# Altium schematic symbol library dungvh03-CERN_AnalogInterface.SchLib: 1053 symbols (part 4 of 12)
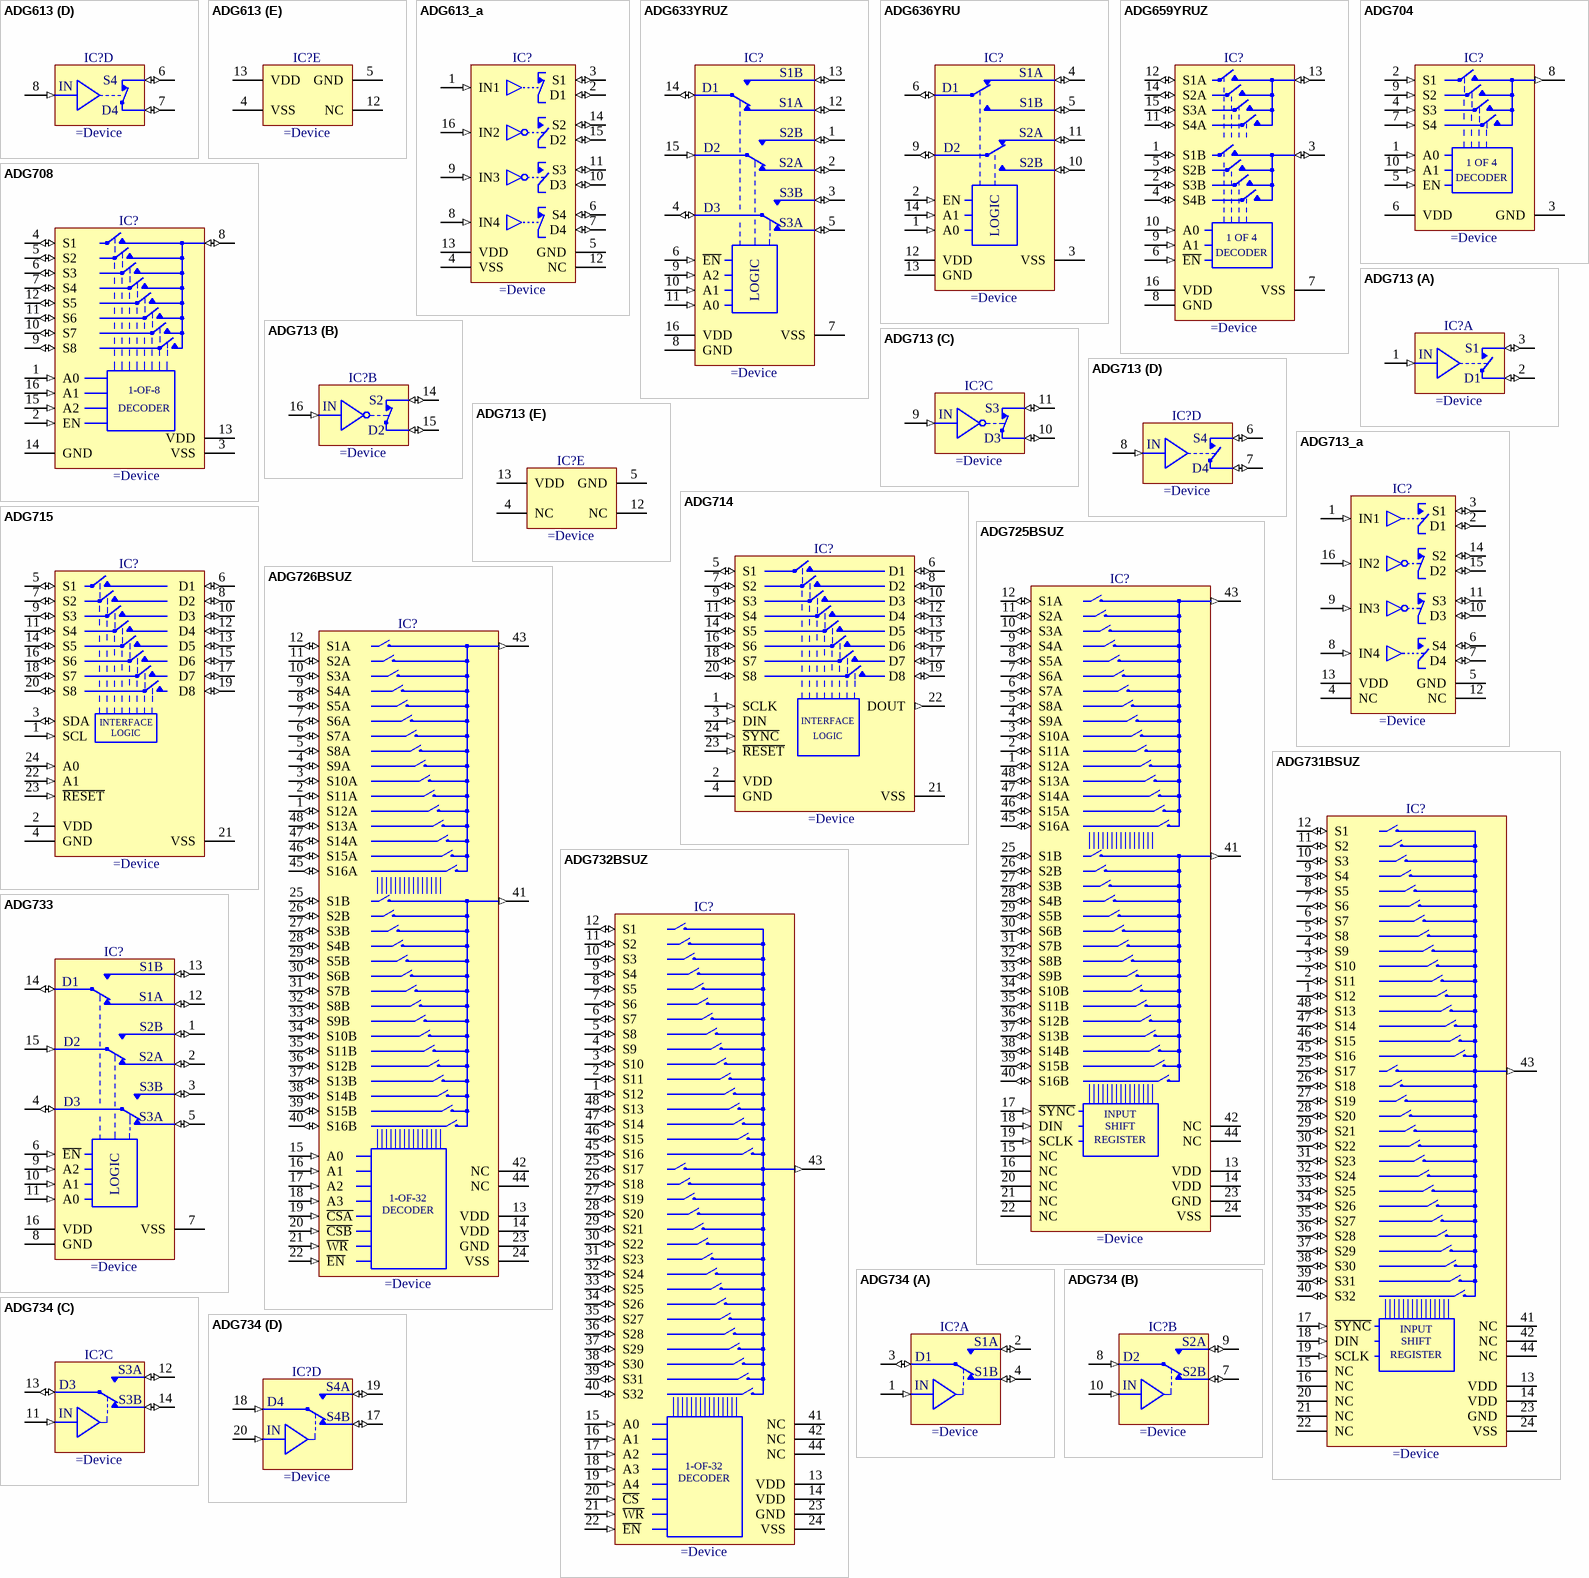
[diagram p70: symbols ADG613 to ADG734]

## ADG708
designator IC?
CMOS, 1.8V to 5.5V/±2.5V, 3 Ohm, 8-Channel Analog Multiplexer
pins: 1 A0 (in), 2 EN (in), 3 VSS (power), 4 S1 (io), 5 S2 (io), 6 S3 (io), 7 S4 (io), 8 D (io), 9 S8 (io), 10 S7 (io), 11 S6 (io), 12 S5 (io), 13 VDD (power), 14 GND (power), 15 A2 (in), 16 A1 (in)
text: 1-OF-8; DECODER

## ADG713
designator IC?
Quad SPST Switches
part A pins: 1 IN (in), 2 D (io), 3 S (io)
part B pins: 14 S (io), 15 D (io), 16 IN (in)
part C pins: 9 IN (in), 10 D (io), 11 S (io)
part D pins: 6 S (io), 7 D (io), 8 IN (in)
part E pins: 4 NC, 5 GND (power), 12 NC, 13 VDD (power)
part A text: S1; D1
part B text: S2; D2
part C text: S3; D3
part D text: S4; D4

## ADG713_a
designator IC?
Quad SPST Switches
pins: 1 IN1 (in), 2 D1 (io), 3 S1 (io), 4 NC, 5 GND (power), 6 S4 (io), 7 D4 (io), 8 IN4 (in), 9 IN3 (in), 10 D3 (io), 11 S3 (io), 12 NC, 13 VDD (power), 14 S2 (io), 15 D2 (io), 16 IN2 (in)

## ADG714
designator IC?
CMOS, Low Voltage SPI Serially Controlled, Octal SPST Switches
pins: 1 SCLK (in), 2 VDD (power), 3 DIN (in), 4 GND (power), 5 S1 (io), 6 D1 (io), 7 S2 (io), 8 D2 (io), 9 S3 (io), 10 D3 (io), 11 S4 (io), 12 D4 (io), 13 D5 (io), 14 S5 (io), 15 D6 (io), 16 S6 (io), 17 D7 (io), 18 S7 (io), 19 D8 (io), 20 S8 (io), 21 VSS (power), 22 DOUT (out), 23 ~{RESET} (in), 24 ~{SYNC} (in)
text: INTERFACE; LOGIC

## ADG715
designator IC?
CMOS, Low Voltage I2C Serially Controlled, Octal SPST Switches
pins: 1 SCL (in), 2 VDD (power), 3 SDA (io), 4 GND (power), 5 S1 (io), 6 D1 (io), 7 S2 (io), 8 D2 (io), 9 S3 (io), 10 D3 (io), 11 S4 (io), 12 D4 (io), 13 D5 (io), 14 S5 (io), 15 D6 (io), 16 S6 (io), 17 D7 (io), 18 S7 (io), 19 D8 (io), 20 S8 (io), 21 VSS (power), 22 A1 (in), 23 ~{RESET} (in), 24 A0 (in)
text: INTERFACE; LOGIC

## ADG725BSUZ
designator IC?
Dual 16-Channel, Serially Controlled 4 Ohms +1.8V to +5.5V,  ±2.5V Analog Multiplexer
pins: 1 S12A (io), 2 S11A (io), 3 S10A (io), 4 S9A (io), 5 S8A (io), 6 S7A (io), 7 S6A (io), 8 S5A (io), 9 S4A (io), 10 S3A (io), 11 S2A (io), 12 S1A (io), 13 VDD (power), 14 VDD (power), 15 NC, 16 NC, 17 ~{SYNC} (in), 18 DIN (in), 19 SCLK (in), 20 NC, 21 NC, 22 NC, 23 GND (power), 24 VSS (power), 25 S1B (io), 26 S2B (io), 27 S3B (io), 28 S4B (io), 29 S5B (io), 30 S6B (io), 31 S7B (io), 32 S8B (io), 33 S9B (io), 34 S10B (io), 35 S11B (io), 36 S12B (io), 37 S13B (io), 38 S14B (io), 39 S15B (io), 40 S16B (io), 41 DB (out), 42 NC, 43 DA (out), 44 NC, 45 S16A (io), 46 S15A (io), 47 S14A (io), 48 S13A (io)
text: INPUT; SHIFT; REGISTER

## ADG726BSUZ
designator IC?
Dual 16-Channel, 4 Ohms +1.8V to +5.5V,  ±2.5V Analog Multiplexer
pins: 1 S12A (io), 2 S11A (io), 3 S10A (io), 4 S9A (io), 5 S8A (io), 6 S7A (io), 7 S6A (io), 8 S5A (io), 9 S4A (io), 10 S3A (io), 11 S2A (io), 12 S1A (io), 13 VDD (power), 14 VDD (power), 15 A0 (in), 16 A1 (in), 17 A2 (in), 18 A3 (in), 19 ~{CSA} (in), 20 ~{CSB} (in), 21 ~{WR} (in), 22 ~{EN} (in), 23 GND (power), 24 VSS (power), 25 S1B (io), 26 S2B (io), 27 S3B (io), 28 S4B (io), 29 S5B (io), 30 S6B (io), 31 S7B (io), 32 S8B (io), 33 S9B (io), 34 S10B (io), 35 S11B (io), 36 S12B (io), 37 S13B (io), 38 S14B (io), 39 S15B (io), 40 S16B (io), 41 DB (out), 42 NC, 43 DA (out), 44 NC, 45 S16A (io), 46 S15A (io), 47 S14A (io), 48 S13A (io)
text: 1-OF-32; DECODER

## ADG731BSUZ
designator IC?
32-Channel, Serially Controlled 4 Ohms +1.8V to +5.5V,  ±2.5V Analog Multiplexer
pins: 1 S12 (io), 2 S11 (io), 3 S10 (io), 4 S9 (io), 5 S8 (io), 6 S7 (io), 7 S6 (io), 8 S5 (io), 9 S4 (io), 10 S3 (io), 11 S2 (io), 12 S1 (io), 13 VDD (power), 14 VDD (power), 15 NC, 16 NC, 17 ~{SYNC} (in), 18 DIN (in), 19 SCLK (in), 20 NC, 21 NC, 22 NC, 23 GND (power), 24 VSS (power), 25 S17 (io), 26 S18 (io), 27 S19 (io), 28 S20 (io), 29 S21 (io), 30 S22 (io), 31 S23 (io), 32 S24 (io), 33 S25 (io), 34 S26 (io), 35 S27 (io), 36 S28 (io), 37 S29 (io), 38 S30 (io), 39 S31 (io), 40 S32 (io), 41 NC, 42 NC, 43 D (out), 44 NC, 45 S16 (io), 46 S15 (io), 47 S14 (io), 48 S13 (io)
text: INPUT; SHIFT; REGISTER

## ADG732BSUZ
designator IC?
32-Channel, 4 Ohms +1.8V to +5.5V,  ±2.5V Analog Multiplexer
pins: 1 S12 (io), 2 S11 (io), 3 S10 (io), 4 S9 (io), 5 S8 (io), 6 S7 (io), 7 S6 (io), 8 S5 (io), 9 S4 (io), 10 S3 (io), 11 S2 (io), 12 S1 (io), 13 VDD (power), 14 VDD (power), 15 A0 (in), 16 A1 (in), 17 A2 (in), 18 A3 (in), 19 A4 (in), 20 ~{CS} (in), 21 ~{WR} (in), 22 ~{EN} (in), 23 GND (power), 24 VSS (power), 25 S17 (io), 26 S18 (io), 27 S19 (io), 28 S20 (io), 29 S21 (io), 30 S22 (io), 31 S23 (io), 32 S24 (io), 33 S25 (io), 34 S26 (io), 35 S27 (io), 36 S28 (io), 37 S29 (io), 38 S30 (io), 39 S31 (io), 40 S32 (io), 41 NC, 42 NC, 43 D (out), 44 NC, 45 S16 (io), 46 S15 (io), 47 S14 (io), 48 S13 (io)
text: 1-OF-32; DECODER

## ADG733
designator IC?
CMOS, 2.5 Ohm Low Voltage, Triple SPDT Switch
pins: 1 S2B (io), 2 S2A (io), 3 S3B (io), 4 D3 (io), 5 S3A (io), 6 ~{EN} (in), 7 VSS (power), 8 GND (power), 9 A2 (in), 10 A1 (in), 11 A0 (in), 12 S1A (io), 13 S1B (io), 14 D1 (io), 15 D2 (in), 16 VDD (power)
text: LOGIC

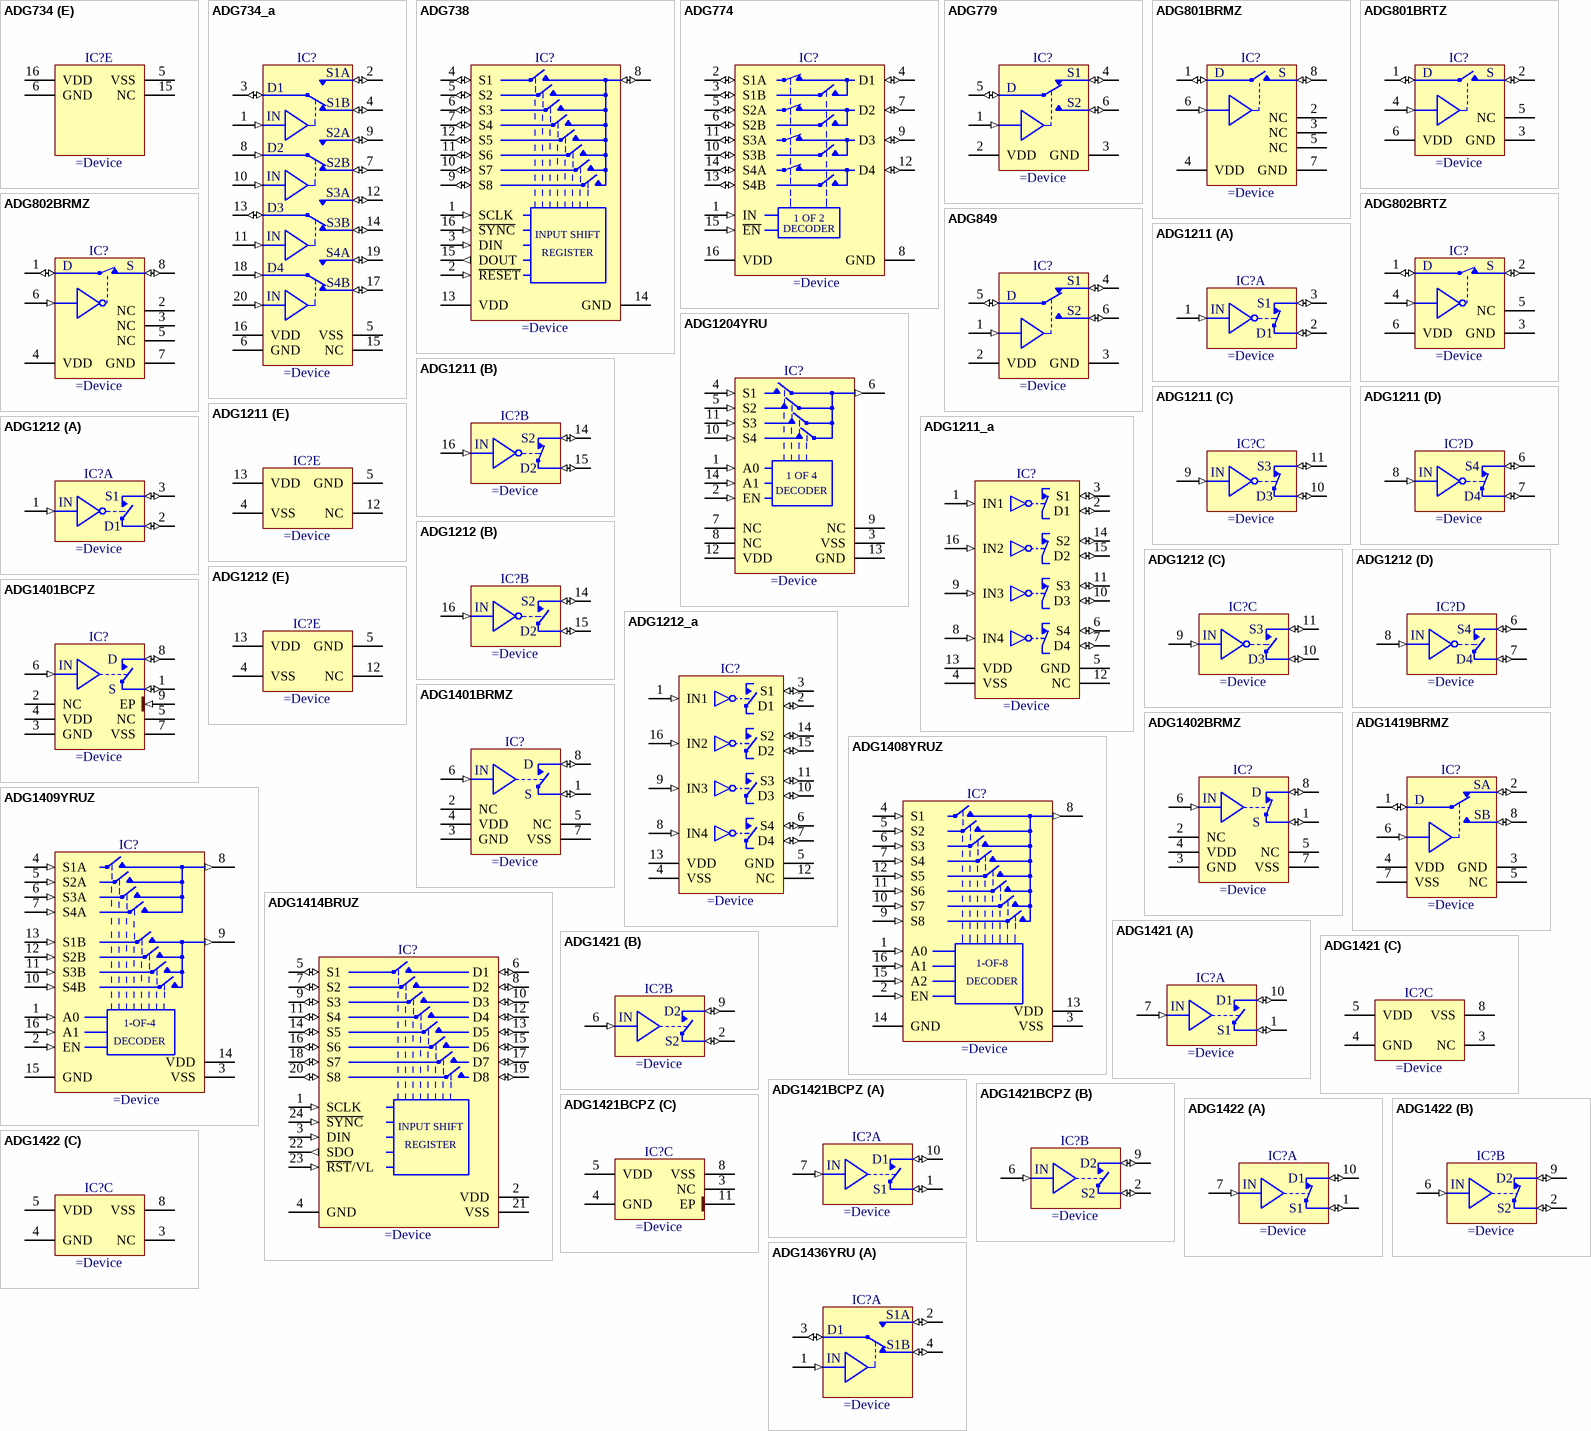
[diagram p16: symbols ADG734 to ADG1436YRU]

## ADG734
designator IC?
CMOS, 2.5 Ohm Low Voltage, Quad SPDT Switch
part A pins: 1 IN (in), 2 S (io), 3 D (io), 4 S (io)
part B pins: 7 S (io), 8 D (in), 9 S (io), 10 IN (in)
part C pins: 11 IN (in), 12 S (io), 13 D (io), 14 S (io)
part D pins: 17 S (io), 18 D (in), 19 S (io), 20 IN (in)
part E pins: 5 VSS (power), 6 GND (power), 15 NC, 16 VDD (power)
part A text: S1A; D1; S1B
part B text: S2A; D2; S2B
part C text: S3A; D3; S3B
part D text: S4A; D4; S4B

## ADG734_a
designator IC?
CMOS, 2.5 Ohm Low Voltage, Quad SPDT Switch
pins: 1 IN (in), 2 S (io), 3 D (io), 4 S (io), 5 VSS (power), 6 GND (power), 7 S (io), 8 D (in), 9 S (io), 10 IN (in), 11 IN (in), 12 S (io), 13 D (io), 14 S (io), 15 NC, 16 VDD (power), 17 S (io), 18 D (in), 19 S (io), 20 IN (in)
text: S1A; D1; S1B; S2A; D2; S2B; S3A; D3; S3B; S4A; D4; S4B

## ADG738
designator IC?
CMOS, Low Voltage, 3-Wire Serially-Controlled, 8-Channel Matrix Switches
pins: 1 SCLK (in), 2 ~{RESET} (in), 3 DIN (in), 4 S1 (io), 5 S2 (io), 6 S3 (io), 7 S4 (io), 8 D (io), 9 S8 (io), 10 S7 (io), 11 S6 (io), 12 S5 (io), 13 VDD (power), 14 GND (power), 15 DOUT (out), 16 ~{SYNC} (in)
text: INPUT SHIFT; REGISTER

## ADG774
designator IC?
CMOS 3 V/5 V, Wide Bandwidth Quad 2:1 Multiplexer/Demultiplexers
pins: 1 IN (in), 2 S1A (io), 3 S1B (io), 4 D1 (io), 5 S2A (io), 6 S2B (io), 7 D2 (io), 8 GND (power), 9 D3 (io), 10 S3B (io), 11 S3A (io), 12 D4 (io), 13 S4B (io), 14 S4A (io), 15 ~{EN} (in), 16 VDD (power)
text: 1 OF 2; DECODER

## ADG779
designator IC?
CMOS 1.8 V to 5.5 V, 2.5 Ohm SPDT Switch
pins: 1 IN (in), 2 VDD (power), 3 GND (power), 4 S1 (io), 5 D (io), 6 S2 (io)

## ADG801BRMZ
designator IC?
CMOS 1.8 V to 5.5 V, <0.4 Ω SPST Switches (Normally Open)
pins: 1 D (io), 2 NC, 3 NC, 4 VDD (power), 5 NC, 6 IN (in), 7 GND (power), 8 S (io)

## ADG801BRTZ
designator IC?
CMOS 1.8 V to 5.5 V, <0.4 Ω SPST Switches (Normally Open)
pins: 1 D (io), 2 S (io), 3 GND (power), 4 IN (in), 5 NC, 6 VDD (power)

## ADG802BRMZ
designator IC?
CMOS 1.8 V to 5.5 V, <0.4 Ω SPST Switches (Normally Closed)
pins: 1 D (io), 2 NC, 3 NC, 4 VDD (power), 5 NC, 6 IN (in), 7 GND (power), 8 S (io)

## ADG802BRTZ
designator IC?
CMOS 1.8 V to 5.5 V, <0.4 Ω SPST Switches (Normally Closed)
pins: 1 D (io), 2 S (io), 3 GND (power), 4 IN (in), 5 NC, 6 VDD (power)

## ADG849
designator IC?
CMOS 3V/5V, 0.5 Ohm SPDT/2:1 Mux Switch
pins: 1 IN (in), 2 VDD (power), 3 GND (power), 4 S1 (io), 5 D (io), 6 S2 (io)

## ADG1204YRU
designator IC?
Low Capacitance, Low Charge Injection, ±15 V/+12 V, 4:1 iCMOS Multiplexer
pins: 1 A0 (in), 2 EN (in), 3 VSS (power), 4 S1 (in), 5 S2 (in), 6 D (out), 7 NC, 8 NC, 9 NC, 10 S4 (in), 11 S3 (in), 12 VDD (power), 13 GND (power), 14 A1 (in)
text: 1 OF 4; DECODER

## ADG1211
designator IC?
Low Capacitance, Low Charge Injection, ±15V/+12V iCMOS iCMOS Quad SPST Switches (Normally Closed)
part A pins: 1 IN (in), 2 D (io), 3 S (io)
part B pins: 14 S (io), 15 D (io), 16 IN (in)
part C pins: 9 IN (in), 10 D (io), 11 S (io)
part D pins: 6 S (io), 7 D (io), 8 IN (in)
part E pins: 4 VSS (power), 5 GND (power), 12 NC, 13 VDD (power)
part A text: S1; D1
part B text: S2; D2
part C text: S3; D3
part D text: S4; D4

## ADG1211_a
designator IC?
Low Capacitance, Low Charge Injection, ±15V/+12V iCMOS iCMOS Quad SPST Switches (Normally Closed)
pins: 1 IN1 (in), 2 D1 (io), 3 S1 (io), 4 VSS (power), 5 GND (power), 6 S4 (io), 7 D4 (io), 8 IN4 (in), 9 IN3 (in), 10 D3 (io), 11 S3 (io), 12 NC, 13 VDD (power), 14 S2 (io), 15 D2 (io), 16 IN2 (in)

## ADG1212
designator IC?
Low Capacitance, Low Charge Injection, ±15V/+12V iCMOS iCMOS Quad SPST Switches (Normally Open)
part A pins: 1 IN (in), 2 D (io), 3 S (io)
part B pins: 14 S (io), 15 D (io), 16 IN (in)
part C pins: 9 IN (in), 10 D (io), 11 S (io)
part D pins: 6 S (io), 7 D (io), 8 IN (in)
part E pins: 4 VSS (power), 5 GND (power), 12 NC, 13 VDD (power)
part A text: S1; D1
part B text: S2; D2
part C text: S3; D3
part D text: S4; D4

## ADG1212_a
designator IC?
Low Capacitance, Low Charge Injection, ±15V/+12V iCMOS iCMOS Quad SPST Switches (Normally Open)
pins: 1 IN1 (in), 2 D1 (io), 3 S1 (io), 4 VSS (power), 5 GND (power), 6 S4 (io), 7 D4 (io), 8 IN4 (in), 9 IN3 (in), 10 D3 (io), 11 S3 (io), 12 NC, 13 VDD (power), 14 S2 (io), 15 D2 (io), 16 IN2 (in)

## ADG1401BCPZ
designator IC?
1 Ohm ON Resistance, ±15 V/+12 V/±5 V, iCMOS SPST Switches (Normaly Open)
pins: 1 S (io), 2 NC, 3 GND (power), 4 VDD (power), 5 NC, 6 IN (in), 7 VSS (power), 8 D (io), 9 EP (in)

## ADG1401BRMZ
designator IC?
1 Ohm ON Resistance, ±15 V/+12 V/±5 V, iCMOS SPST Switches (Normaly Open)
pins: 1 S (io), 2 NC, 3 GND (power), 4 VDD (power), 5 NC, 6 IN (in), 7 VSS (power), 8 D (io)

## ADG1402BRMZ
designator IC?
1 Ohm ON Resistance, ±15 V/+12 V/±5 V, iCMOS SPST Switches (Normaly Close)
pins: 1 S (io), 2 NC, 3 GND (power), 4 VDD (power), 5 NC, 6 IN (in), 7 VSS (power), 8 D (io)

## ADG1408YRUZ
designator IC?
8-Channel, ±15 V/+12 V/±5 V iCMOS Multiplexers
pins: 1 A0 (in), 2 EN (in), 3 VSS (power), 4 S1 (in), 5 S2 (in), 6 S3 (in), 7 S4 (in), 8 D (out), 9 S8 (in), 10 S7 (in), 11 S6 (in), 12 S5 (in), 13 VDD (power), 14 GND (power), 15 A2 (in), 16 A1 (in)
text: 1-OF-8; DECODER

## ADG1409YRUZ
designator IC?
Dual 4-Channel ±15V/+12V/±5V iCMOS Multiplexer
pins: 1 A0 (in), 2 EN (in), 3 VSS (power), 4 S1A (in), 5 S2A (in), 6 S3A (in), 7 S4A (in), 8 DA (out), 9 DB (out), 10 S4B (in), 11 S3B (in), 12 S2B (in), 13 S1B (in), 14 VDD (power), 15 GND (power), 16 A1 (in)
text: 1-OF-4; DECODER

## ADG1414BRUZ
designator IC?
9.5 Ohm ON Resistance, ±15 V/+12 V/±5 V iCMOS,  Serially-Controlled Octal SPST Switches
pins: 1 SCLK (in), 2 VDD (power), 3 DIN (in), 4 GND (power), 5 S1 (io), 6 D1 (io), 7 S2 (io), 8 D2 (io), 9 S3 (io), 10 D3 (io), 11 S4 (io), 12 D4 (io), 13 D5 (io), 14 S5 (io), 15 D6 (io), 16 S6 (io), 17 D7 (io), 18 S7 (io), 19 D8 (io), 20 S8 (io), 21 VSS (power), 22 SDO (out), 23 ~{RST}/VL (in), 24 ~{SYNC} (in)
text: INPUT SHIFT; REGISTER

## ADG1419BRMZ
designator IC?
2.1 Ohm On Resistance, ±15 V/+12 V/±5 V  iCMOS SPDT Switch
pins: 1 D (io), 2 SA (io), 3 GND (power), 4 VDD (power), 5 NC, 6 IN (in), 7 VSS (power), 8 SB (io)

## ADG1421
designator IC?
2.1 Ohms On Resistance iCMOS Dual SPST Switches (Normally Open)
part A pins: 1 S1 (io), 7 IN (in), 10 D1 (io)
part B pins: 2 S2 (io), 6 IN (in), 9 D2 (io)
part C pins: 3 NC, 4 GND (power), 5 VDD (power), 8 VSS (power)

## ADG1421BCPZ
designator IC?
2.1 Ohms On Resistance iCMOS Dual SPST Switches (Normally Open)
part A pins: 1 S1 (io), 7 IN (in), 10 D1 (io)
part B pins: 2 S2 (io), 6 IN (in), 9 D2 (io)
part C pins: 3 NC, 4 GND (power), 5 VDD (power), 8 VSS (power), 11 EP (power) "It is recommended that the exposed paddle be soldered to VSS to improve heat dissipation and crosstalk."

## ADG1422
designator IC?
2.1 Ohms On Resistance iCMOS Dual SPST Switches (Normally Closed)
part A pins: 1 S1 (io), 7 IN (in), 10 D1 (io)
part B pins: 2 S2 (io), 6 IN (in), 9 D2 (io)
part C pins: 3 NC, 4 GND (power), 5 VDD (power), 8 VSS (power)

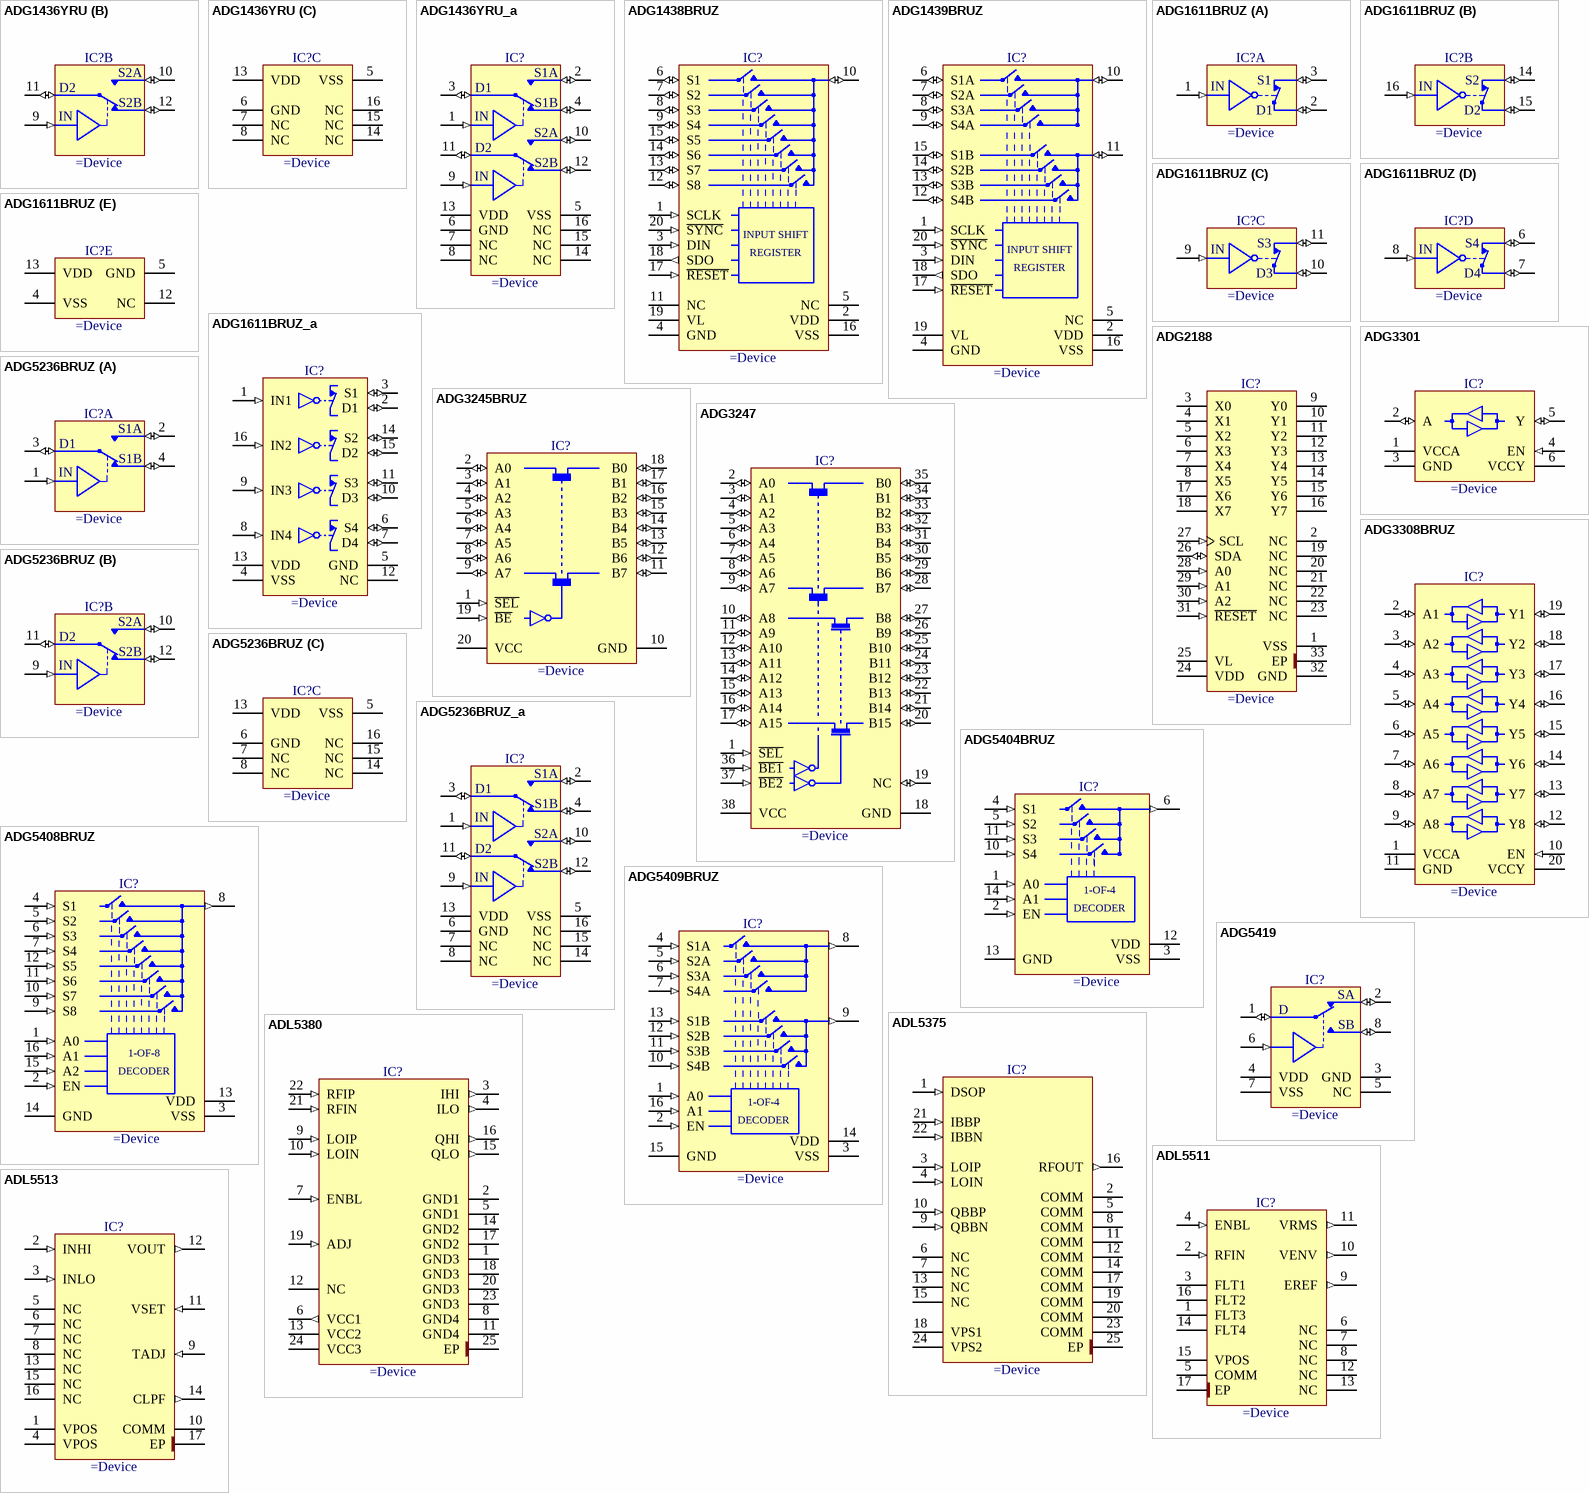
[diagram p17: symbols ADG1436YRU to ADL5513]

## ADG1436YRU
designator IC?
±15 V/12 V/±5 V, iCMOS, Dual SPDT Switch
part A pins: 1 IN (in), 2 S (io), 3 D (io), 4 S (io)
part B pins: 9 IN (in), 10 S (io), 11 D (io), 12 S (io)
part C pins: 5 VSS (power), 6 GND (power), 7 NC, 8 NC, 13 VDD (power), 14 NC, 15 NC, 16 NC
part A text: S1A; D1; S1B
part B text: S2A; D2; S2B

## ADG1436YRU_a
designator IC?
±15 V/12 V/±5 V, iCMOS, Dual SPDT Switch
pins: 1 IN (in), 2 D (io), 3 S (io), 4 S (io), 5 VSS (power), 6 GND (power), 7 NC, 8 NC, 9 IN (in), 10 S (io), 11 IN (io), 12 D (io), 13 VDD (power), 14 NC, 15 NC, 16 NC
text: S1A; D1; S1B; S2A; D2; S2B

## ADG1438BRUZ
designator IC?
Serially Controlled, ±15 V/+12 V/±5 V, 8-Channel iCMOS Multiplexer/Matrix Switches
pins: 1 SCLK (in), 2 VDD (power), 3 DIN (in), 4 GND (power), 5 NC, 6 S1 (io), 7 S2 (io), 8 S3 (io), 9 S4 (io), 10 D (io), 11 NC, 12 S8 (io), 13 S7 (io), 14 S6 (io), 15 S5 (io), 16 VSS (power), 17 ~{RESET} (in), 18 SDO (out), 19 VL (power), 20 ~{SYNC} (in)
text: INPUT SHIFT; REGISTER

## ADG1439BRUZ
designator IC?
Serially Controlled, ±15 V/+12 V/±5 V, 4-Channel iCMOS Multiplexer/Matrix Switches
pins: 1 SCLK (in), 2 VDD (power), 3 DIN (in), 4 GND (power), 5 NC, 6 S1A (io), 7 S2A (io), 8 S3A (io), 9 S4A (io), 10 D (io), 11 D (io), 12 S4B (io), 13 S3B (io), 14 S2B (io), 15 S1B (io), 16 VSS (power), 17 ~{RESET} (in), 18 SDO (out), 19 VL (power), 20 ~{SYNC} (in)
text: INPUT SHIFT; REGISTER

## ADG1611BRUZ
designator IC?
1 Ohm Typical On Resistance, +3.3 V, ±5 V, +12 V Quad SPST Switches (Normally Closed)
part A pins: 1 IN (in), 2 D (io), 3 S (io)
part B pins: 14 S (io), 15 D (io), 16 IN (in)
part C pins: 9 IN (in), 10 D (io), 11 S (io)
part D pins: 6 S (io), 7 D (io), 8 IN (in)
part E pins: 4 VSS (power), 5 GND (power), 12 NC, 13 VDD (power)
part A text: S1; D1
part B text: S2; D2
part C text: S3; D3
part D text: S4; D4

## ADG1611BRUZ_a
designator IC?
1 Ohm Typical On Resistance, +3.3 V, ±5 V, +12 V Quad SPST Switches (Normally Closed)
pins: 1 IN1 (in), 2 D1 (io), 3 S1 (io), 4 VSS (power), 5 GND (power), 6 S4 (io), 7 D4 (io), 8 IN4 (in), 9 IN3 (in), 10 D3 (io), 11 S3 (io), 12 NC, 13 VDD (power), 14 S2 (io), 15 D2 (io), 16 IN2 (in)

## ADG2188
designator IC?
I2C(R) CMOS 8 x 8 Unbuffered Analog Switch Array with Dual/Single Supplies
pins: 1 VSS (power) "Negative Power Supply in a Dual-Supply Application. For single-supply applications, this pin should be tied to GND.", 2 NC "No Connect.", 3 X0 "Can be inputs or outputs.", 4 X1 "Can be inputs or outputs.", 5 X2 "Can be inputs or outputs.", 6 X3 "Can be inputs or outputs.", 7 X4 "Can be inputs or outputs.", 8 X5 "Can be inputs or outputs.", 9 Y0 "Can be inputs or outputs.", 10 Y1 "Can be inputs or outputs.", 11 Y2 "Can be inputs or outputs.", 12 Y3 "Can be inputs or outputs.", 13 Y4 "Can be inputs or outputs.", 14 Y5 "Can be inputs or outputs.", 15 Y6 "Can be inputs or outputs.", 16 Y7 "Can be inputs or outputs.", 17 X6 "Can be inputs or outputs.", 18 X7 "Can be inputs or outputs.", 19 NC "No Connect.", 20 NC "No Connect.", 21 NC "No Connect.", 22 NC "No Connect.", 23 NC "No Connect.", 24 VDD (power) "Positive Power Supply Input.", 25 VL (power) "Logic Power Supply Input.", 26 SDA (io) "Digital I/O. Bidirectional open drain data line. External pull-up resistor required.", 27 SCL (in) "Digital Input, Serial Clock Line. Open drain input that is used in conjunction with SDA to clock data into the device. External pull-up resistor required.", 28 A0 (in) "Logic Input. Address pin that sets the least significant bit of the 7-bit slave address.", 29 A1 (in) "Logic Input. Address pin that sets the second least significant bit of the 7-bit slave address.", 30 A2 (in) "Logic Input. Address pin that sets the third least significant bit of the 7-bit slave address.", 31 ~{RESET} (in) "Active Low Logic Input. When this pin is low, all switches are open, and appropriate registers are cleared to 0.", 32 GND (power) "Ground. Reference point for all circuitry on the ADG2188.", 33 EP (power) "It is recommended that the exposed paddle be soldered to VSS to improve heat dissipation and crosstalk."

## ADG3245BRUZ
designator IC?
2.5 V/3.3 V, 8-Bit, 2-Port  Level Translating, Bus Switch
pins: 1 ~{SEL} (in), 2 A0 (io), 3 A1 (io), 4 A2 (io), 5 A3 (io), 6 A4 (io), 7 A5 (io), 8 A6 (io), 9 A7 (io), 10 GND (power), 11 B7 (io), 12 B6 (io), 13 B5 (io), 14 B4 (io), 15 B3 (io), 16 B2 (io), 17 B1 (io), 18 B0 (io), 19 ~{BE} (in), 20 VCC (power)

## ADG3247
designator IC?
2.5V/3.3V, 16-Bit, 2-Port Level Translating, Bus Switch
pins: 1 ~{SEL} (in), 2 A0 (io), 3 A1 (io), 4 A2 (io), 5 A3 (io), 6 A4 (io), 7 A5 (io), 8 A6 (io), 9 A7 (io), 10 A8 (io), 11 A9 (io), 12 A10 (io), 13 A11 (io), 14 A12 (io), 15 A13 (io), 16 A14 (io), 17 A15 (io), 18 GND (power), 19 NC (io), 20 B15 (io), 21 B14 (io), 22 B13 (io), 23 B12 (io), 24 B11 (io), 25 B10 (io), 26 B9 (io), 27 B8 (io), 28 B7 (io), 29 B6 (io), 30 B5 (io), 31 B4 (io), 32 B3 (io), 33 B2 (io), 34 B1 (io), 35 B0 (io), 36 ~{BE1} (in), 37 ~{BE2} (in), 38 VCC (power)

## ADG3301
designator IC?
Low Voltage, 1.15V to 5.5V, Single-Channel Bidirectional Logic Level Translator
pins: 1 VCCA (power), 2 A (io), 3 GND (power), 4 EN (in), 5 Y (io), 6 VCCY (power)

## ADG3308BRUZ
designator IC?
Low Voltage, 1.15V to 5.5V, 8-Channel Bidirectional Logic Level Translator
pins: 1 VCCA (power), 2 A1 (io), 3 A2 (io), 4 A3 (io), 5 A4 (io), 6 A5 (io), 7 A6 (io), 8 A7 (io), 9 A8 (io), 10 EN (in), 11 GND (power), 12 Y8 (io), 13 Y7 (io), 14 Y6 (io), 15 Y5 (io), 16 Y4 (io), 17 Y3 (io), 18 Y2 (io), 19 Y1 (io), 20 VCCY (power)

## ADG5236BRUZ
designator IC?
High Voltage Latch-Up Proof, Dual SPDT Switches
part A pins: 1 IN (in), 2 S (io), 3 D (io), 4 S (io)
part B pins: 9 IN (in), 10 S (io), 11 D (io), 12 S (io)
part C pins: 5 VSS (power), 6 GND (power), 7 NC, 8 NC, 13 VDD (power), 14 NC, 15 NC, 16 NC
part A text: S1A; D1; S1B
part B text: S2A; D2; S2B

## ADG5236BRUZ_a
designator IC?
High Voltage Latch-Up Proof, Dual SPDT Switches
pins: 1 IN (in), 2 D (io), 3 S (io), 4 S (io), 5 VSS (power), 6 GND (power), 7 NC, 8 NC, 9 IN (in), 10 S (io), 11 IN (io), 12 D (io), 13 VDD (power), 14 NC, 15 NC, 16 NC
text: S1A; D1; S1B; S2A; D2; S2B

## ADG5404BRUZ
designator IC?
High Voltage Latch-Up Proof, 4-Channel Multiplexer
pins: 1 A0 (in), 2 EN (in), 3 VSS (power), 4 S1 (in), 5 S2 (in), 6 D (out), 10 S4 (in), 11 S3 (in), 12 VDD (power), 13 GND (power), 14 A1 (in)
text: 1-OF-4; DECODER

## ADG5408BRUZ
designator IC?
High Voltage Latch-Up Proof, 8-Channel Multiplexer
pins: 1 A0 (in), 2 EN (in), 3 VSS (power), 4 S1 (in), 5 S2 (in), 6 S3 (in), 7 S4 (in), 8 D (out), 9 S8 (in), 10 S7 (in), 11 S6 (in), 12 S5 (in), 13 VDD (power), 14 GND (power), 15 A2 (in), 16 A1 (in)
text: 1-OF-8; DECODER

## ADG5409BRUZ
designator IC?
High Voltage Latch-Up Proof, Dual 4-Channel Multiplexer
pins: 1 A0 (in), 2 EN (in), 3 VSS (power), 4 S1A (in), 5 S2A (in), 6 S3A (in), 7 S4A (in), 8 DA (out), 9 DB (out), 10 S4B (in), 11 S3B (in), 12 S2B (in), 13 S1B (in), 14 VDD (power), 15 GND (power), 16 A1 (in)
text: 1-OF-4; DECODER

## ADG5419
designator IC?
High Voltage Latch-Up Proof, Single SPDT switch
pins: 1 D (io), 2 S1 (io), 3 GND (power), 4 VDD (power), 5 NC, 6 IN (in), 7 VSS (power), 8 S2 (io)
text: SA; SB

## ADL5375
designator IC?
400 MHz to 6 GHz Broadband Quadrature Modulator
pins: 1 DSOP (in), 2 COMM (power), 3 LOIP (in), 4 LOIN (in), 5 COMM (power), 6 NC, 7 NC, 8 COMM (power), 9 QBBN (in), 10 QBBP (in), 11 COMM (power), 12 COMM (power), 13 NC, 14 COMM (power), 15 NC, 16 RFOUT (out), 17 COMM (power), 18 VPS1 (power), 19 COMM (power), 20 COMM (power), 21 IBBP (in), 22 IBBN (in), 23 COMM (power), 24 VPS2 (power), 25 EP (power)

## ADL5380
designator IC?
400 MHz to 6 GHz Quadrature Demodulator
pins: 1 GND3 (power), 2 GND1 (power), 3 IHI (out), 4 ILO (out), 5 GND1 (power), 6 VCC1 (out), 7 ENBL (in), 8 GND4 (power), 9 LOIP (in), 10 LOIN (in), 11 GND4 (power), 12 NC, 13 VCC2 (power), 14 GND2 (power), 15 QLO (out), 16 QHI (out), 17 GND2 (power), 18 GND3 (power), 19 ADJ (in), 20 GND3 (power), 21 RFIN (in), 22 RFIP (in), 23 GND3 (power), 24 VCC3 (power), 25 EP (power)

## ADL5511
designator IC?
DC to 6 GHz Envelope and TruPwr RMS Detector
pins: 1 FLT3, 2 RFIN (in), 3 FLT1, 4 ENBL (in), 5 COMM (power), 6 NC, 7 NC, 8 NC, 9 EREF (out), 10 VENV (out), 11 VRMS (out), 12 NC, 13 NC, 14 FLT4, 15 VPOS (power), 16 FLT2, 17 EP (power)

## ADL5513
designator IC?
1MHz to 4GHz, 80dB Logarithmic Detector/Controller
pins: 1 VPOS (power), 2 INHI (in), 3 INLO (in), 4 VPOS (power), 5 NC, 6 NC, 7 NC, 8 NC, 9 TADJ (in), 10 COMM (power), 11 VSET (in), 12 VOUT (out), 13 NC, 14 CLPF (out), 15 NC, 16 NC, 17 EP (power)

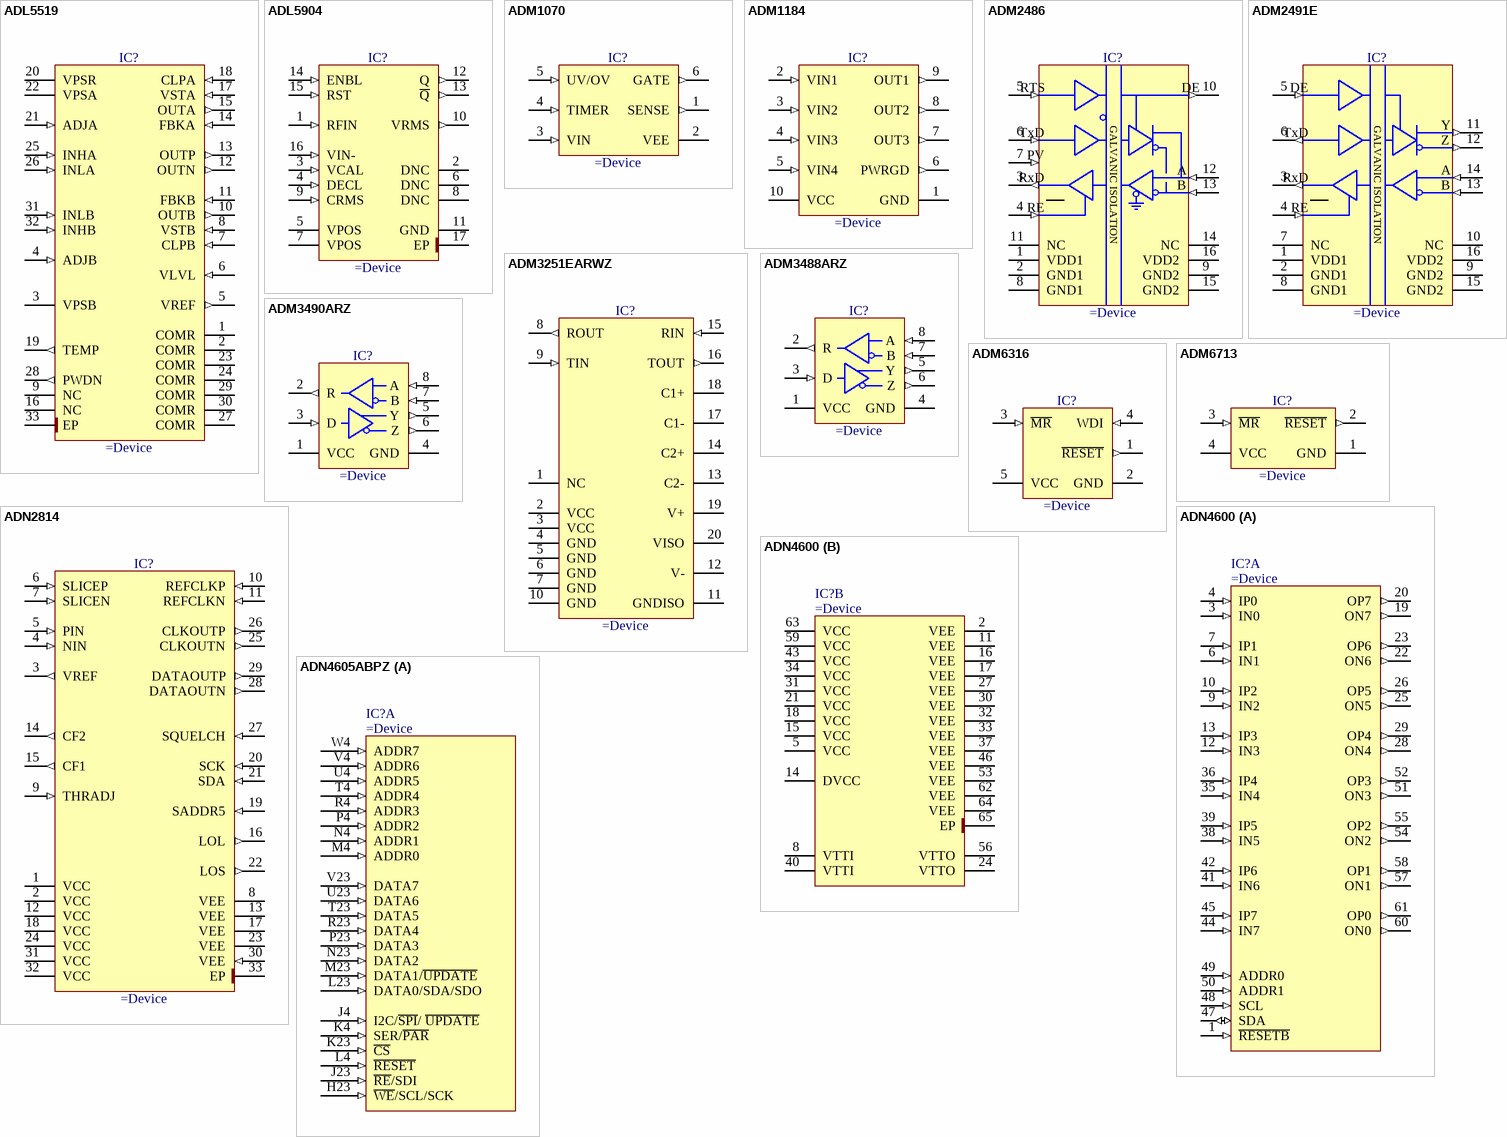
[diagram p18: symbols ADL5519 to ADN4605ABPZ]

## ADL5519
designator IC?
1MHz to 10GHz, 62dB Dual Logarithmic Detector/Controller
pins: 1 COMR (power), 2 COMR (power), 3 VPSB (power), 4 ADJB (in), 5 VREF (out), 6 VLVL (in), 7 CLPB (in), 8 VSTB (in), 9 NC, 10 OUTB (out), 11 FBKB (in), 12 OUTN (out), 13 OUTP (out), 14 FBKA (in), 15 OUTA (out), 16 NC, 17 VSTA (in), 18 CLPA (in), 19 TEMP (out), 20 VPSR (power), 21 ADJA (in), 22 VPSA (power), 23 COMR (power), 24 COMR (power), 25 INHA (in), 26 INLA (in), 27 COMR (power), 28 PWDN (out), 29 COMR (power), 30 COMR (power), 31 INLB (in), 32 INHB (in), 33 EP (power)

## ADL5904
designator IC?
DC to 6 GHz, 45 dB TruPwr Detector With Envelope Threshold Detection
pins: 1 RFIN (in), 2 DNC, 3 VCAL (in), 4 DECL (in), 5 VPOS (power), 6 DNC, 7 VPOS (power), 8 DNC, 9 CRMS (in), 10 VRMS (out), 11 GND (power), 12 Q (out), 13 ~{Q} (out), 14 ENBL (in), 15 RST (in), 16 VIN- (in), 17 EP (power)

## ADM1070
designator IC?
-48 V Hot Swap Controller
pins: 1 SENSE (out), 2 VEE (power), 3 VIN (in), 4 TIMER (in), 5 UV/OV (in), 6 GATE (out)

## ADM1184
designator IC?
0.8% Accurate Quad Voltage Monitor
pins: 1 GND (power), 2 VIN1 (in), 3 VIN2 (in), 4 VIN3 (in), 5 VIN4 (in), 6 PWRGD (out), 7 OUT3 (out), 8 OUT2 (out), 9 OUT1 (out), 10 VCC (power)

## ADM2486
designator IC?
High Speed, ESD-Protected, Half-Duplex iCoupler Isolated RS-485 Transceiver
pins: 1 VDD1 (power), 2 GND1 (power), 3 RxD (out), 4 ~{RE} (in), 5 RTS (in), 6 TxD (in), 7 PV (in), 8 GND1 (power), 9 GND2 (power), 10 DE (out), 11 NC, 12 A (in), 13 B (in), 14 NC, 15 GND2 (power), 16 VDD2 (power)
text: GALVANIC ISOLATION; RE

## ADM2491E
designator IC?
High Speed, ESD-Protected, Half-/Full-Duplex iCoupler Isolated RS-485 Transceiver
pins: 1 VDD1 (power), 2 GND1 (power), 3 RxD (out), 4 ~{RE} (in), 5 DE (in), 6 TxD (out), 7 NC, 8 GND1 (power), 9 GND2 (power), 10 NC, 11 Y (out), 12 Z (out), 13 B (in), 14 A (in), 15 GND2 (power), 16 VDD2 (power)
text: GALVANIC ISOLATION; RE

## ADM3251EARWZ
designator IC?
Isolated, Single-Channel RS-232 Line Driver/Receiver
pins: 1 NC, 2 VCC (power), 3 VCC (power), 4 GND (power), 5 GND (power), 6 GND (power), 7 GND (power), 8 ROUT (out), 9 TIN (in), 10 GND (power), 11 GNDISO (power), 12 V- (power), 13 C2-, 14 C2+, 15 RIN (in), 16 TOUT (out), 17 C1-, 18 C1+, 19 V+ (power), 20 VISO (power)

## ADM3488ARZ
designator IC?
3.3V, 250kbps, Full-Duplex RS-485/RS-422 Transceiver
pins: 1 VCC (power), 2 R (out), 3 D (in), 4 GND (power), 5 Y (out), 6 Z (out), 7 B (in), 8 A (in)

## ADM3490ARZ
designator IC?
3.3 V, 10Mbps Full-Duplex RS-485/RS-422 Transceiver
pins: 1 VCC (power), 2 R (out), 3 D (in), 4 GND (power), 5 Y (out), 6 Z (out), 7 B (in), 8 A (in)

## ADM6316
designator IC?
Supervisory Circuits with Watchdog and Manual Reset
pins: 1 ~{RESET} (out), 2 GND (power), 3 ~{MR} (in), 4 WDI (in), 5 VCC (power)

## ADM6713
designator IC?
Microprocessor Supervisory with Manual Reset
pins: 1 GND (power), 2 ~{RESET} (out), 3 ~{MR} (in), 4 VCC (power)

## ADN2814
designator IC?
Continuous Rate 10 Mb/s to 675 Mb/s Clock and Data Recovery IC with Integrated Limiting Amplifier
pins: 1 VCC (power), 2 VCC (power), 3 VREF (out), 4 NIN (in), 5 PIN (in), 6 SLICEP (in), 7 SLICEN (in), 8 VEE (power), 9 THRADJ (in), 10 REFCLKP (in), 11 REFCLKN (in), 12 VCC (power), 13 VEE (power), 14 CF2 (out), 15 CF1 (out), 16 LOL (out), 17 VEE (power), 18 VCC (power), 19 SADDR5 (in), 20 SCK (in), 21 SDA (in), 22 LOS (out), 23 VEE (power), 24 VCC (power), 25 CLKOUTN (out), 26 CLKOUTP (out), 27 SQUELCH (in), 28 DATAOUTN (out), 29 DATAOUTP (out), 30 VEE (in), 31 VCC (power), 32 VCC (power), 33 EP (power)

## ADN4600
designator IC?
4.25Gbps, 8 × 8, Asynchronous Crosspoint Switch
part A pins: 1 ~{RESETB} (in), 3 IN0 (in), 4 IP0 (in), 6 IN1 (in), 7 IP1 (in), 9 IN2 (in), 10 IP2 (in), 12 IN3 (in), 13 IP3 (in), 19 ON7 (out), 20 OP7 (out), 22 ON6 (out), 23 OP6 (out), 25 ON5 (out), 26 OP5 (out), 28 ON4 (out), 29 OP4 (out), 35 IN4 (in), 36 IP4 (in), 38 IN5 (in), 39 IP5 (in), 41 IN6 (in), 42 IP6 (in), 44 IN7 (in), 45 IP7 (in), 47 SDA (io), 48 SCL (in), 49 ADDR0 (in), 50 ADDR1 (in), 51 ON3 (out), 52 OP3 (out), 54 ON2 (out), 55 OP2 (out), 57 ON1 (out), 58 OP1 (out), 60 ON0 (out), 61 OP0 (out)
part B pins: 2 VEE (power), 5 VCC (power), 8 VTTI (power), 11 VEE (power), 14 DVCC (power), 15 VCC (power), 16 VEE (power), 17 VEE (power), 18 VCC (power), 21 VCC (power), 24 VTTO (power), 27 VEE (power), 30 VEE (power), 31 VCC (power), 32 VEE (power), 33 VEE (power), 34 VCC (power), 37 VEE (power), 40 VTTI (power), 43 VCC (power), 46 VEE (power), 53 VEE (power), 56 VTTO (power), 59 VCC (power), 62 VEE (power), 63 VCC (power), 64 VEE (power), 65 EP (power)

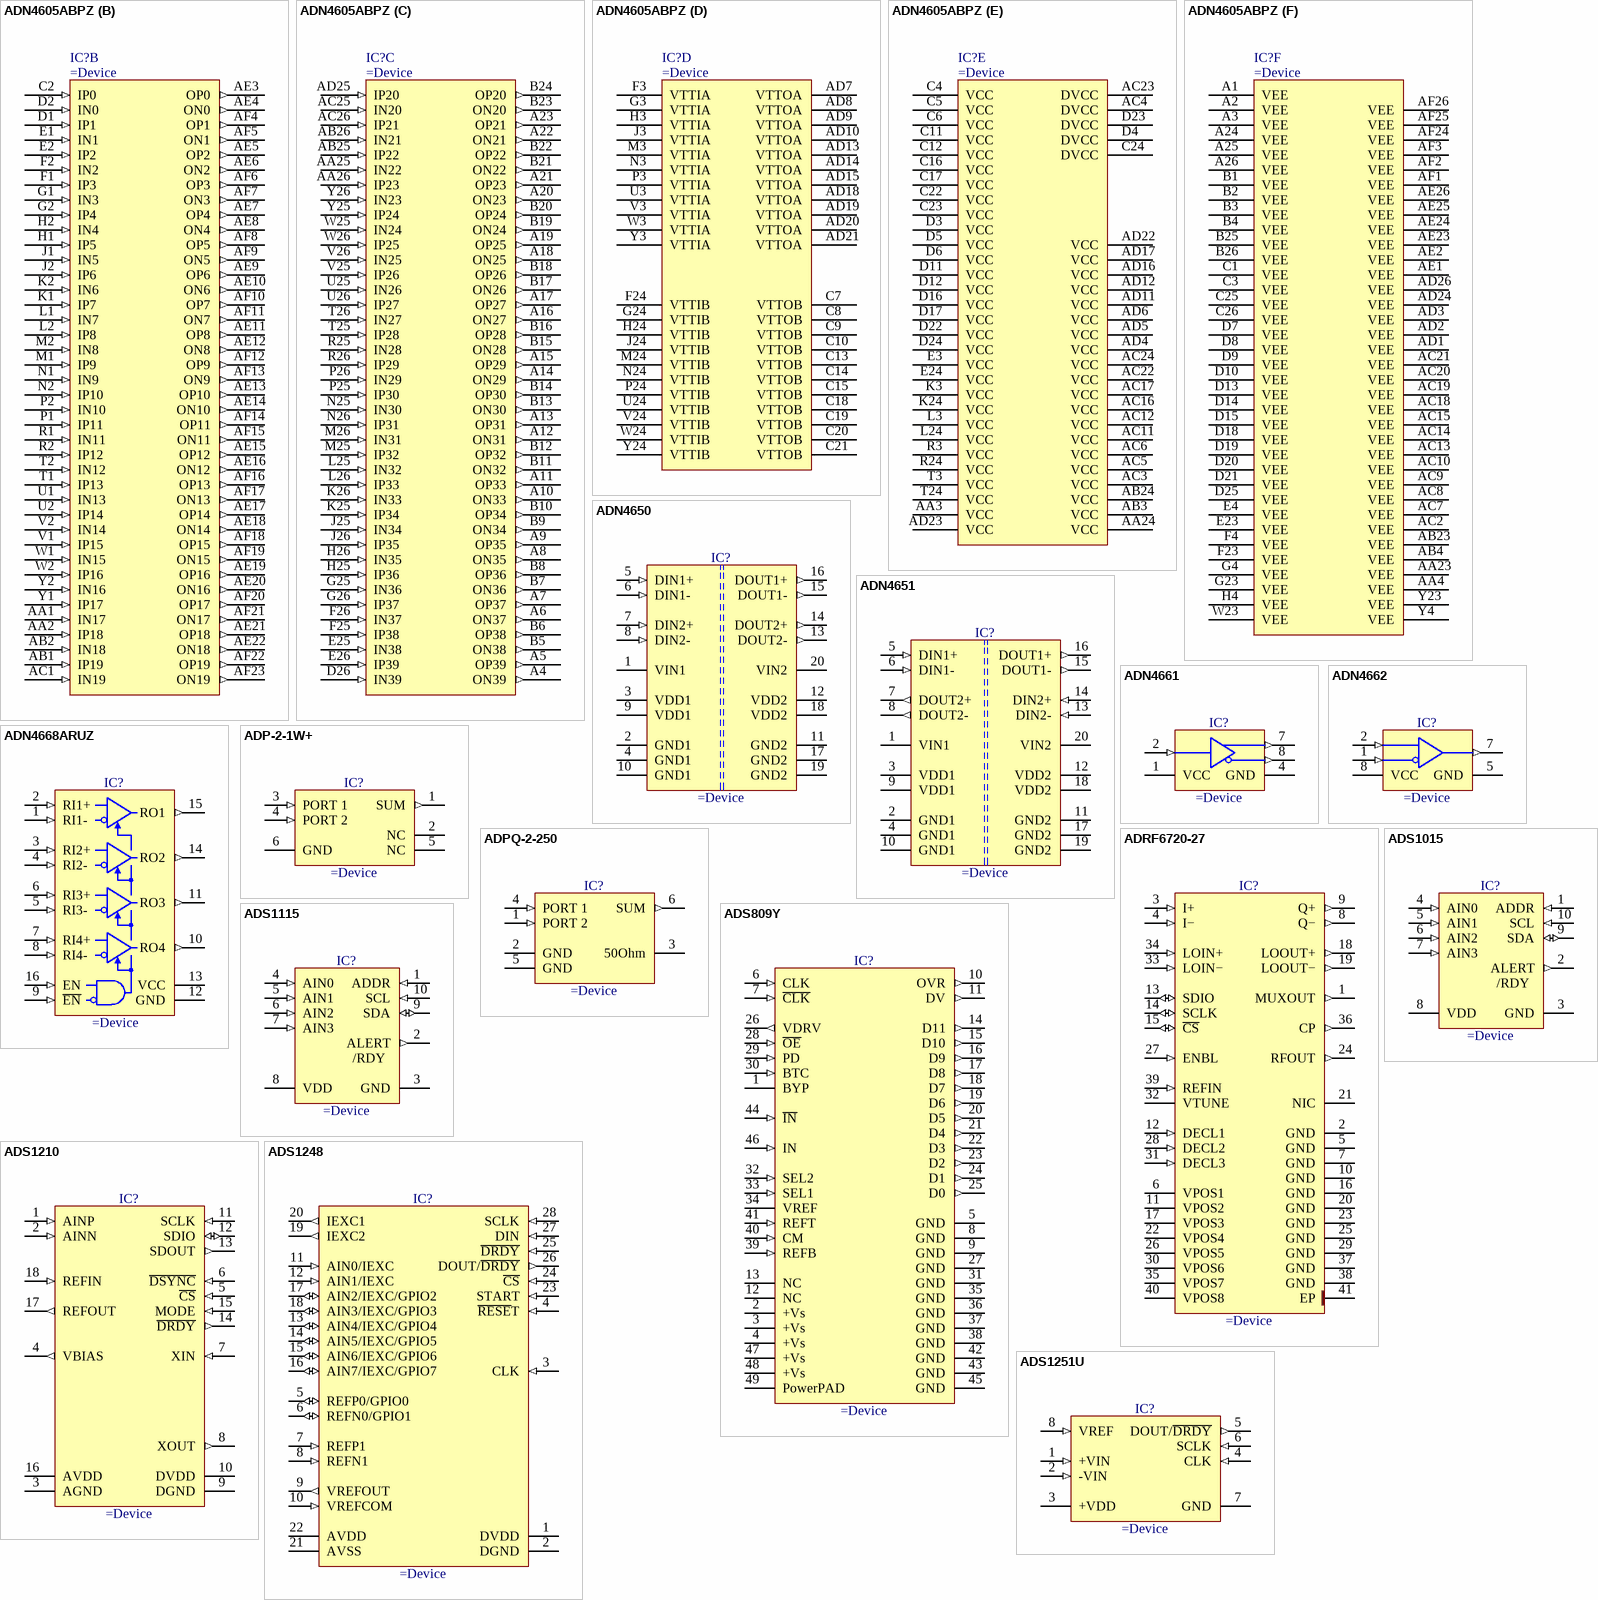
[diagram p19: symbols ADN4605ABPZ to ADS1251U]

## ADN4605ABPZ
designator IC?
X-Stream 4.25 Gbps 40 × 40 Digital Crosspoint Switch
part A pins: H23 ~{WE}/SCL/SCK (in), J4 I2C/~{SPI}/ ~{UPDATE} (in), J23 ~{RE}/SDI (in), K4 SER/~{PAR} (in), K23 ~{CS} (in), L4 ~{RESET} (in), L23 DATA0/SDA/SDO (in), M4 ADDR0 (in), M23 DATA1/~{UPDATE} (in), N4 ADDR1 (in), N23 DATA2 (in), P4 ADDR2 (in), P23 DATA3 (in), R4 ADDR3 (in), R23 DATA4 (in), T4 ADDR4 (in), T23 DATA5 (in), U4 ADDR5 (in), U23 DATA6 (in), V4 ADDR6 (in), V23 DATA7 (in), W4 ADDR7 (in)
part B pins: AA1 IN17 (in), AA2 IP18 (in), AB1 IP19 (in), AB2 IN18 (in), AC1 IN19 (in), AE3 OP0 (out), AE4 ON0 (out), AE5 OP2 (out), AE6 ON2 (out), AE7 OP4 (out), AE8 ON4 (out), AE9 OP6 (out), AE10 ON6 (out), AE11 OP8 (out), AE12 ON8 (out), AE13 OP10 (out), AE14 ON10 (out), AE15 OP12 (out), AE16 ON12 (out), AE17 OP14 (out), AE18 ON14 (out), AE19 OP16 (out), AE20 ON16 (out), AE21 OP18 (out), AE22 ON18 (out), AF4 OP1 (out), AF5 ON1 (out), AF6 OP3 (out), AF7 ON3 (out), AF8 OP5 (out), AF9 ON5 (out), AF10 OP7 (out), AF11 ON7 (out), AF12 OP9 (out), AF13 ON9 (out), AF14 OP11 (out), AF15 ON11 (out), AF16 OP13 (out), AF17 ON13 (out), AF18 OP15 (out), AF19 ON15 (out), AF20 OP17 (out), AF21 ON17 (out), AF22 OP19 (out), AF23 ON19 (out), C2 IP0 (in), D1 IP1 (in), D2 IN0 (in), E1 IN1 (in), E2 IP2 (in), F1 IP3 (in), F2 IN2 (in), G1 IN3 (in), G2 IP4 (in), H1 IP5 (in), H2 IN4 (in), J1 IN5 (in), J2 IP6 (in), K1 IP7 (in), K2 IN6 (in), L1 IN7 (in), L2 IP8 (in), M1 IP9 (in), M2 IN8 (in), N1 IN9 (in), N2 IP10 (in), P1 IP11 (in), P2 IN10 (in), R1 IN11 (in), R2 IP12 (in), T1 IP13 (in), T2 IN12 (in), U1 IN13 (in), U2 IP14 (in), V1 IP15 (in), V2 IN14 (in), W1 IN15 (in), W2 IP16 (in), Y1 IP17 (in), Y2 IN16 (in)
part C pins: A4 ON39 (out), A5 OP39 (out), A6 ON37 (out), A7 OP37 (out), A8 ON35 (out), A9 OP35 (out), A10 ON33 (out), A11 OP33 (out), A12 ON31 (out), A13 OP31 (out), A14 ON29 (out), A15 OP29 (out), A16 ON27 (out), A17 OP27 (out), A18 ON25 (out), A19 OP25 (out), A20 ON23 (out), A21 OP23 (out), A22 ON21 (out), A23 OP21 (out), AA25 IN22 (in), AA26 IP23 (in), AB25 IP22 (in), AB26 IN21 (in), AC25 IN20 (in), AC26 IP21 (in), AD25 IP20 (in), B5 ON38 (out), B6 OP38 (out), B7 ON36 (out), B8 OP36 (out), B9 ON34 (out), B10 OP34 (out), B11 ON32 (out), B12 OP32 (out), B13 ON30 (out), B14 OP30 (out), B15 ON28 (out), B16 OP28 (out), B17 ON26 (out), B18 OP26 (out), B19 ON24 (out), B20 OP24 (out), B21 ON22 (out), B22 OP22 (out), B23 ON20 (out), B24 OP20 (out), D26 IN39 (in), E25 IN38 (in), E26 IP39 (in), F25 IP38 (in), F26 IN37 (in), G25 IN36 (in), G26 IP37 (in), H25 IP36 (in), H26 IN35 (in), J25 IN34 (in), J26 IP35 (in), K25 IP34 (in), K26 IN33 (in), L25 IN32 (in), L26 IP33 (in), M25 IP32 (in), M26 IN31 (in), N25 IN30 (in), N26 IP31 (in), P25 IP30 (in), P26 IN29 (in), R25 IN28 (in), R26 IP29 (in), T25 IP28 (in), T26 IN27 (in), U25 IN26 (in), U26 IP27 (in), V25 IP26 (in), V26 IN25 (in), W25 IN24 (in), W26 IP25 (in), Y25 IP24 (in), Y26 IN23 (in)
part D pins: AD7 VTTOA (power), AD8 VTTOA (power), AD9 VTTOA (power), AD10 VTTOA (power), AD13 VTTOA (power), AD14 VTTOA (power), AD15 VTTOA (power), AD18 VTTOA (power), AD19 VTTOA (power), AD20 VTTOA (power), AD21 VTTOA (power), C7 VTTOB (power), C8 VTTOB (power), C9 VTTOB (power), C10 VTTOB (power), C13 VTTOB (power), C14 VTTOB (power), C15 VTTOB (power), C18 VTTOB (power), C19 VTTOB (power), C20 VTTOB (power), C21 VTTOB (power), F3 VTTIA (power), F24 VTTIB (power), G3 VTTIA (power), G24 VTTIB (power), H3 VTTIA (power), H24 VTTIB (power), J3 VTTIA (power), J24 VTTIB (power), M3 VTTIA (power), M24 VTTIB (power), N3 VTTIA (power), N24 VTTIB (power), P3 VTTIA (power), P24 VTTIB (power), U3 VTTIA (power), U24 VTTIB (power), V3 VTTIA (power), V24 VTTIB (power), W3 VTTIA (power), W24 VTTIB (power), Y3 VTTIA (power), Y24 VTTIB (power)
part E pins: AA3 VCC (power), AA24 VCC (power), AB3 VCC (power), AB24 VCC (power), AC3 VCC (power), AC4 DVCC (power), AC5 VCC (power), AC6 VCC (power), AC11 VCC (power), AC12 VCC (power), AC16 VCC (power), AC17 VCC (power), AC22 VCC (power), AC23 DVCC (power), AC24 VCC (power), AD4 VCC (power), AD5 VCC (power), AD6 VCC (power), AD11 VCC (power), AD12 VCC (power), AD16 VCC (power), AD17 VCC (power), AD22 VCC (power), AD23 VCC (power), C4 VCC (power), C5 VCC (power), C6 VCC (power), C11 VCC (power), C12 VCC (power), C16 VCC (power), C17 VCC (power), C22 VCC (power), C23 VCC (power), C24 DVCC (power), D3 VCC (power), D4 DVCC (power), D5 VCC (power), D6 VCC (power), D11 VCC (power), D12 VCC (power), D16 VCC (power), D17 VCC (power), D22 VCC (power), D23 DVCC (power), D24 VCC (power), E3 VCC (power), E24 VCC (power), K3 VCC (power), K24 VCC (power), L3 VCC (power), L24 VCC (power), R3 VCC (power), R24 VCC (power), T3 VCC (power), T24 VCC (power)
part F pins: A1 VEE (power), A2 VEE (power), A3 VEE (power), A24 VEE (power), A25 VEE (power), A26 VEE (power), AA4 VEE (power), AA23 VEE (power), AB4 VEE (power), AB23 VEE (power), AC2 VEE (power), AC7 VEE (power), AC8 VEE (power), AC9 VEE (power), AC10 VEE (power), AC13 VEE (power), AC14 VEE (power), AC15 VEE (power), AC18 VEE (power), AC19 VEE (power), AC20 VEE (power), AC21 VEE (power), AD1 VEE (power), AD2 VEE (power), AD3 VEE (power), AD24 VEE (power), AD26 VEE (power), AE1 VEE (power), AE2 VEE (power), AE23 VEE (power), AE24 VEE (power), AE25 VEE (power), AE26 VEE (power), AF1 VEE (power), AF2 VEE (power), AF3 VEE (power), AF24 VEE (power), AF25 VEE (power), AF26 VEE (power), B1 VEE (power), B2 VEE (power), B3 VEE (power), B4 VEE (power), B25 VEE (power), B26 VEE (power), C1 VEE (power), C3 VEE (power), C25 VEE (power), C26 VEE (power), D7 VEE (power), D8 VEE (power), D9 VEE (power), D10 VEE (power), D13 VEE (power), D14 VEE (power), D15 VEE (power), D18 VEE (power), D19 VEE (power), D20 VEE (power), D21 VEE (power), D25 VEE (power), E4 VEE (power), E23 VEE (power), F4 VEE (power), F23 VEE (power), G4 VEE (power), G23 VEE (power), H4 VEE (power), W23 VEE (power), Y4 VEE (power), Y23 VEE (power)

## ADN4650
designator IC?
5kV/3.75kV, 600Mbps, Dual-Channel LVDS Isolator
pins: 1 VIN1 (power), 2 GND1 (power), 3 VDD1 (power), 4 GND1 (power), 5 DIN1+ (in), 6 DIN1- (in), 7 DIN2+ (in), 8 DIN2- (in), 9 VDD1 (power), 10 GND1 (power), 11 GND2 (power), 12 VDD2 (power), 13 DOUT2- (out), 14 DOUT2+ (out), 15 DOUT1- (out), 16 DOUT1+ (out), 17 GND2 (power), 18 VDD2 (power), 19 GND2 (power), 20 VIN2 (power)

## ADN4651
designator IC?
5kV/3.75kV, 600Mbps, Dual-Channel LVDS Isolator
pins: 1 VIN1 (power), 2 GND1 (power), 3 VDD1 (power), 4 GND1 (power), 5 DIN1+ (in), 6 DIN1- (in), 7 DOUT2+ (out), 8 DOUT2- (out), 9 VDD1 (power), 10 GND1 (power), 11 GND2 (power), 12 VDD2 (power), 13 DIN2- (in), 14 DIN2+ (in), 15 DOUT1- (out), 16 DOUT1+ (out), 17 GND2 (power), 18 VDD2 (power), 19 GND2 (power), 20 VIN2 (power)

## ADN4661
designator IC?
Single, 3V, CMOS, LVDS, High Speed Differential Driver
pins: 1 VCC (power), 2 DIN (in), 3 NC hidden, 4 GND (power), 5 NC hidden, 6 NC hidden, 7 DOUT+ (out), 8 DOUT- (out)

## ADN4662
designator IC?
Single, 3V, CMOS, LVDS, Differential Line Receiver
pins: 1 RIN- (in), 2 RIN+ (in), 3 NC hidden, 4 NC hidden, 5 GND (power), 6 NC hidden, 7 ROUT (out), 8 VCC (power)

## ADN4668ARUZ
designator IC?
3V LVDS Quad CMOS Differential Line Receiver
pins: 1 RI1- (in), 2 RI1+ (in), 3 RI2+ (in), 4 RI2- (in), 5 RI3- (in), 6 RI3+ (in), 7 RI4+ (in), 8 RI4- (in), 9 ~{EN} (in), 10 RO4 (out), 11 RO3 (out), 12 GND (power), 13 VCC (power), 14 RO2 (out), 15 RO1 (out), 16 EN (in)

## ADP-2-1W+
designator IC?
2 Way-0° 50 OHM 1 to 650MHz Power Splitter/Combiner
pins: 1 SUM (out), 2 NC, 3 PORT 1 (in), 4 PORT 2 (in), 5 NC, 6 GND (power)

## ADPQ-2-250
designator IC?
2 Way-90°, 50 Ohms, 150 to 250MHz, Power Splitter/Combiner
pins: 1 PORT 2 (in), 2 GND (power), 3 50Ohm, 4 PORT 1 (in), 5 GND (power), 6 SUM (out)

## ADRF6720-27
designator IC?
Wideband Quadrature Modulator with Integrated Fractional-N PLL and VCOs
pins: 1 MUXOUT (out), 2 GND (power), 3 I+ (in), 4 I− (in), 5 GND (power), 6 VPOS1 (power), 7 GND (power), 8 Q− (out), 9 Q+ (out), 10 GND (power), 11 VPOS2 (power), 12 DECL1 (in), 13 SDIO (io), 14 SCLK (io), 15 ~{CS} (io), 16 GND (power), 17 VPOS3 (power), 18 LOOUT+ (out), 19 LOOUT− (out), 20 GND (power), 21 NIC, 22 VPOS4 (power), 23 GND (power), 24 RFOUT (out), 25 GND (power), 26 VPOS5 (power), 27 ENBL (in), 28 DECL2 (in), 29 GND (power), 30 VPOS6 (power), 31 DECL3 (in), 32 VTUNE (power), 33 LOIN− (in), 34 LOIN+ (in), 35 VPOS7 (power), 36 CP (out), 37 GND (power), 38 GND (power), 39 REFIN (in), 40 VPOS8 (power), 41 EP (power)

## ADS809Y
designator IC?
12-Bit, 80MHz Sampling Analog-To-Digital Converter
pins: 1 BYP, 2 +Vs (power), 3 +Vs (power), 4 +Vs (power), 5 GND (power), 6 CLK (in), 7 ~{CLK} (in), 8 GND (power), 9 GND (power), 10 OVR (out), 11 DV (out), 12 NC, 13 NC, 14 D11 (out), 15 D10 (out), 16 D9 (out), 17 D8 (out), 18 D7 (out), 19 D6 (out), 20 D5 (out), 21 D4 (out), 22 D3 (out), 23 D2 (out), 24 D1 (out), 25 D0 (out), 26 VDRV (out), 27 GND (power), 28 ~{OE} (in), 29 PD (in), 30 BTC (in), 31 GND (power), 32 SEL2 (in), 33 SEL1 (in), 34 VREF, 35 GND (power), 36 GND (power), 37 GND (power), 38 GND (power), 39 REFB (in), 40 CM (in), 41 REFT (in), 42 GND (power), 43 GND (power), 44 ~{IN} (in), 45 GND (power), 46 IN (in), 47 +Vs (power), 48 +Vs (power), 49 PowerPAD

## ADS1015
designator IC?
Ultra-Small, Low-Power, 12-Bit Analog-to-Digital Converter with Internal Reference
pins: 1 ADDR (in), 2 ALERT (out), 3 GND (power), 4 AIN0 (in), 5 AIN1 (in), 6 AIN2 (in), 7 AIN3 (in), 8 VDD (power), 9 SDA (io), 10 SCL (in)
text: /RDY

## ADS1115
designator IC?
Ultra-Small, Low-Power, 16-Bit Analog-to-Digital Converter with Internal Reference
pins: 1 ADDR (in), 2 ALERT (out), 3 GND (power), 4 AIN0 (in), 5 AIN1 (in), 6 AIN2 (in), 7 AIN3 (in), 8 VDD (power), 9 SDA (io), 10 SCL (in)
text: /RDY

## ADS1210
designator IC?
24-Bit Analog-to Digital Converter
pins: 1 AINP (in), 2 AINN (in), 3 AGND (power), 4 VBIAS (out), 5 ~{CS} (in), 6 ~{DSYNC} (in), 7 XIN (in), 8 XOUT (out), 9 DGND (power), 10 DVDD (power), 11 SCLK (in), 12 SDIO (io), 13 SDOUT (out), 14 ~{DRDY} (out), 15 MODE (in), 16 AVDD (power), 17 REFOUT (out), 18 REFIN (in)

## ADS1248
designator IC?
24-Bit Analog-to-Digital Converter for Temperature Sensors
pins: 1 DVDD (power), 2 DGND (power), 3 CLK (in), 4 ~{RESE}T (in), 5 REFP0/GPIO0 (io), 6 REFN0/GPIO1 (io), 7 REFP1 (in), 8 REFN1 (in), 9 VREFOUT (out), 10 VREFCOM (in), 11 AIN0/IEXC (in), 12 AIN1/IEXC (in), 13 AIN4/IEXC/GPIO4 (io), 14 AIN5/IEXC/GPIO5 (io), 15 AIN6/IEXC/GPIO6 (io), 16 AIN7/IEXC/GPIO7 (io), 17 AIN2/IEXC/GPIO2 (io), 18 AIN3/IEXC/GPIO3 (io), 19 IEXC2 (out), 20 IEXC1 (out), 21 AVSS (power), 22 AVDD (power), 23 START (in), 24 ~{CS} (in), 25 ~{DRDY} (in), 26 DOUT/~{DRDY} (out), 27 DIN (in), 28 SCLK (in)

## ADS1251U
designator IC?
24-Bit, 20kHz, Low-Power Analog-to-Digital Converter
pins: 1 +VIN (in), 2 -VIN (in), 3 +VDD (power), 4 CLK (in), 5 DOUT/~{DRDY} (out), 6 SCLK (in), 7 GND (power), 8 VREF (in)

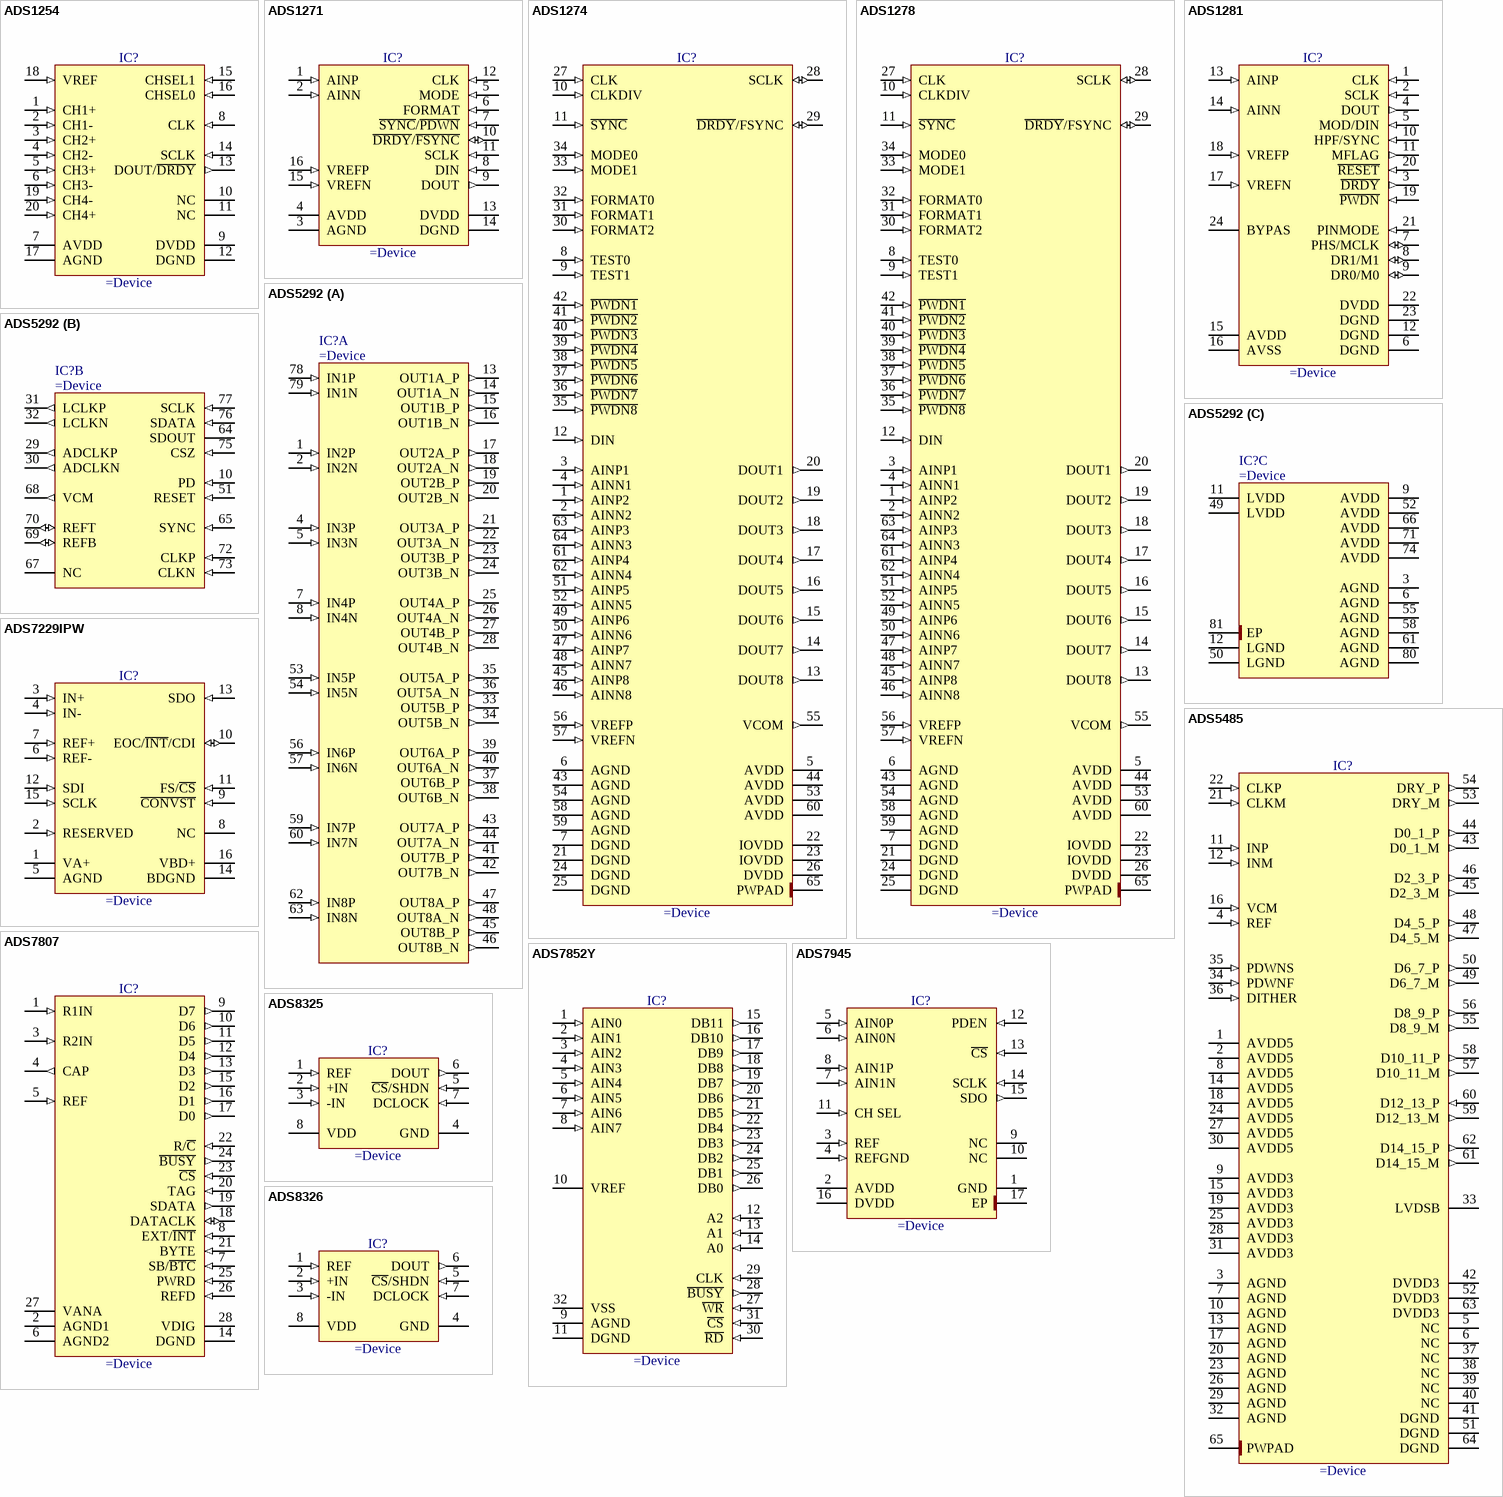
[diagram p20: symbols ADS1254 to ADS8326]

## ADS1254
designator IC?
24-Bit, 20-kHz, Low Power Analog-to Digital Converter
pins: 1 CH1+ (in), 2 CH1- (in), 3 CH2+ (in), 4 CH2- (in), 5 CH3+ (in), 6 CH3- (in), 7 AVDD (power), 8 CLK (in), 9 DVDD (power), 10 NC, 11 NC, 12 DGND (power), 13 DOUT/~{DRDY} (out), 14 SCLK (in), 15 CHSEL1 (in), 16 CHSEL0 (in), 17 AGND (power), 18 VREF (in), 19 CH4- (in), 20 CH4+ (in)

## ADS1271
designator IC?
24-Bit, Wide Bandwidth Analog-to-Digital Converter
pins: 1 AINP (in), 2 AINN (in), 3 AGND (power), 4 AVDD (power), 5 MODE (in), 6 FORMAT (in), 7 ~{SYNC}/~{PDWN} (in), 8 DIN (in), 9 DOUT (out), 10 ~{DRDY}/~{FSYNC} (io), 11 SCLK (in), 12 CLK (in), 13 DVDD (power), 14 DGND (power), 15 VREFN (in), 16 VREFP (in)

## ADS1274
designator IC?
Quad, Simultaneous Sampling, 24-Bit Analog-to-Digital Converters
pins: 1 AINP2 (in), 2 AINN2 (in), 3 AINP1 (in), 4 AINN1 (in), 5 AVDD (power), 6 AGND (power), 7 DGND (power), 8 TEST0 (in), 9 TEST1 (in), 10 CLKDIV (in), 11 ~{SYNC} (in), 12 DIN (in), 13 DOUT8 (out), 14 DOUT7 (out), 15 DOUT6 (out), 16 DOUT5 (out), 17 DOUT4 (out), 18 DOUT3 (out), 19 DOUT2 (out), 20 DOUT1 (out), 21 DGND (power), 22 IOVDD (power), 23 IOVDD (power), 24 DGND (power), 25 DGND (power), 26 DVDD (power), 27 CLK (in), 28 SCLK (io), 29 ~{DRDY}/FSYNC (io), 30 FORMAT2 (in), 31 FORMAT1 (in), 32 FORMAT0 (in), 33 MODE1 (in), 34 MODE0 (in), 35 ~{PWDN8} (in), 36 ~{PWDN7} (in), 37 ~{PWDN6} (in), 38 ~{PWDN5} (in), 39 ~{PWDN4} (in), 40 ~{PWDN3} (in), 41 ~{PWDN2} (in), 42 ~{PWDN1} (in), 43 AGND (power), 44 AVDD (power), 45 AINP8 (in), 46 AINN8 (in), 47 AINP7 (in), 48 AINN7 (in), 49 AINP6 (in), 50 AINN6 (in), 51 AINP5 (in), 52 AINN5 (in), 53 AVDD (power), 54 AGND (power), 55 VCOM (out), 56 VREFP (in), 57 VREFN (in), 58 AGND (power), 59 AGND (power), 60 AVDD (power), 61 AINP4 (in), 62 AINN4 (in), 63 AINP3 (in), 64 AINN3 (in), 65 PWPAD (power)

## ADS1278
designator IC?
Octal, Simultaneous Sampling, 24-Bit Analog-to-Digital Converters
pins: 1 AINP2 (in), 2 AINN2 (in), 3 AINP1 (in), 4 AINN1 (in), 5 AVDD (power), 6 AGND (power), 7 DGND (power), 8 TEST0 (in), 9 TEST1 (in), 10 CLKDIV (in), 11 ~{SYNC} (in), 12 DIN (in), 13 DOUT8 (out), 14 DOUT7 (out), 15 DOUT6 (out), 16 DOUT5 (out), 17 DOUT4 (out), 18 DOUT3 (out), 19 DOUT2 (out), 20 DOUT1 (out), 21 DGND (power), 22 IOVDD (power), 23 IOVDD (power), 24 DGND (power), 25 DGND (power), 26 DVDD (power), 27 CLK (in), 28 SCLK (io), 29 ~{DRDY}/FSYNC (io), 30 FORMAT2 (in), 31 FORMAT1 (in), 32 FORMAT0 (in), 33 MODE1 (in), 34 MODE0 (in), 35 ~{PWDN8} (in), 36 ~{PWDN7} (in), 37 ~{PWDN6} (in), 38 ~{PWDN5} (in), 39 ~{PWDN4} (in), 40 ~{PWDN3} (in), 41 ~{PWDN2} (in), 42 ~{PWDN1} (in), 43 AGND (power), 44 AVDD (power), 45 AINP8 (in), 46 AINN8 (in), 47 AINP7 (in), 48 AINN7 (in), 49 AINP6 (in), 50 AINN6 (in), 51 AINP5 (in), 52 AINN5 (in), 53 AVDD (power), 54 AGND (power), 55 VCOM (out), 56 VREFP (in), 57 VREFN (in), 58 AGND (power), 59 AGND (power), 60 AVDD (power), 61 AINP4 (in), 62 AINN4 (in), 63 AINP3 (in), 64 AINN3 (in), 65 PWPAD (power)

## ADS1281
designator IC?
High Resolution 24-Bit Analog-to Digital Converter
pins: 1 CLK (in), 2 SCLK (in), 3 ~{DRDY} (out), 4 DOUT (out), 5 MOD/DIN (in), 6 DGND (power), 7 PHS/MCLK (io), 8 DR1/M1 (io), 9 DR0/M0 (io), 10 HPF/SYNC (in), 11 MFLAG (out), 12 DGND (power), 13 AINP (in), 14 AINN (in), 15 AVDD (power), 16 AVSS (power), 17 VREFN (in), 18 VREFP (in), 19 ~{PWDN} (in), 20 ~{RESET} (in), 21 PINMODE (in), 22 DVDD (power), 23 DGND (power), 24 BYPAS

## ADS5292
designator IC?
Octal Channel 12-Bit, 80 MSPS High-SNR and Low-Power ADC, -40 to 85 degC, 80-pin QFP (PFP80), Green (RoHS & no Sb/Br)
part A pins: 1 IN2P (in) "Differential input signal, Channel 2", 2 IN2N (in) "Differential input signal, Channel 2", 4 IN3P (in) "Differential input signal, Channel 3", 5 IN3N (in) "Differential input signal, Channel 3", 7 IN4P (in) "Differential input signal, Channel 4", 8 IN4N (in) "Differential input signal, Channel 4", 13 OUT1A_P (out) "Differential LVDS data output, wire 1, channel 1", 14 OUT1A_N (out) "Differential LVDS data output, wire 1, channel 1", 15 OUT1B_P (out) "Differential LVDS data output, wire 2, channel 1", 16 OUT1B_N (out) "Differential LVDS data output, wire 2, channel 1", 17 OUT2A_P (out) "Differential LVDS data output, wire 1, channel 2", 18 OUT2A_N (out) "Differential LVDS data output, wire 1, channel 2", 19 OUT2B_P (out) "Differential LVDS data output, wire 2, channel 2", 20 OUT2B_N (out) "Differential LVDS data output, wire 2, channel 2", 21 OUT3A_P (out) "Differential LVDS data output, wire 1, channel 3", 22 OUT3A_N (out) "Differential LVDS data output, wire 1, channel 3", 23 OUT3B_P (out) "Differential LVDS data output, wire 2, channel 3", 24 OUT3B_N (out) "Differential LVDS data output, wire 2, channel 3", 25 OUT4A_P (out) "Differential LVDS data output, wire 1, channel 4", 26 OUT4A_N (out) "Differential LVDS data output, wire 1, channel 4", 27 OUT4B_P (out) "Differential LVDS data output, wire 2, channel 4", 28 OUT4B_N (out) "Differential LVDS data output, wire 2, channel 4", 33 OUT5B_P (out) "Differential LVDS data output, wire 2, channel 5", 34 OUT5B_N (out) "Differential LVDS data output, wire 2, channel 5", 35 OUT5A_P (out) "Differential LVDS data output, wire 1, channel 5", 36 OUT5A_N (out) "Differential LVDS data output, wire 1, channel 5", 37 OUT6B_P (out) "Differential LVDS data output, wire 2, channel 6", 38 OUT6B_N (out) "Differential LVDS data output, wire 2, channel 6", 39 OUT6A_P (out) "Differential LVDS data output, wire 1, channel 6", 40 OUT6A_N (out) "Differential LVDS data output, wire 1, channel 6", 41 OUT7B_P (out) "Differential LVDS data output, wire 2, channel 7", 42 OUT7B_N (out) "Differential LVDS data output, wire 2, channel 7", 43 OUT7A_P (out) "Differential LVDS data output, wire 1, channel 7", 44 OUT7A_N (out) "Differential LVDS data output, wire 1, channel 7", 45 OUT8B_P (out) "Differential LVDS data output, wire 2, channel 8", 46 OUT8B_N (out) "Differential LVDS data output, wire 2, channel 8", 47 OUT8A_P (out) "Differential LVDS data output, wire 1, channel 8", 48 OUT8A_N (out) "Differential LVDS data output, wire 1, channel 8", 53 IN5P (in) "Differential input signal, Channel 5", 54 IN5N (in) "Differential input signal, Channel 5", 56 IN6P (in) "Differential input signal, Channel 6", 57 IN6N (in) "Differential input signal, Channel 6", 59 IN7P (in) "Differential input signal, Channel 7", 60 IN7N (in) "Differential input signal, Channel 7", 62 IN8P (in) "Differential input signal, Channel 8", 63 IN8N (in) "Differential input signal, Channel 8", 78 IN1P (in) "Differential input signal, Channel 1", 79 IN1N (in) "Differential input signal, Channel 1"
part B pins: 10 PD (in) "Power down control input. Active High. The pin has an internal 220-kO pulldown resistor.", 29 ADCLKP (out) "Differential LVDS frame clock (1X)", 30 ADCLKN (out) "Differential LVDS frame clock (1X)", 31 LCLKP (out) "Differential LVDS bit clock (7X)", 32 LCLKN (out) "Differential LVDS bit clock (7X)", 51 RESET (in) "Active HIGH RESET input. The pin has an internal 220-kO pulldown resistor.", 64 SDOUT (hiz) "Serial data readout. This pin is in the high-impedance state after reset. When the <READOUT> bit is set, the SDOUT pin becomes active. This is a CMOS digital output running from the AVDD supply.", 65 SYNC (in) "Input signal to synchronize channels and chips when used with reduced output data rates. If it is not used, add a =< 10 Kohm pull-down resistor.", 67 NC "No Connection. Must leave floated", 68 VCM (out) "Common-mode output pin, 0.95-V output", 69 REFB (io) "Negative reference input/ output", 70 REFT (io) "Positive reference input/ output", 72 CLKP (in) "Positive differential clock", 73 CLKN (in) "Negative differential clock -Tie CLKN to GND for single-ended clock", 75 CSZ (in) "Serial enable chip select - active low digital input", 76 SDATA (in) "Serial data input. The pin has an internal 220-kO pulldown resistor.", 77 SCLK (in) "Serial clock input. The pin has an internal 220-kohm pulldown resistor."
part C pins: 3 AGND (power) "Analog ground", 6 AGND (power) "Analog ground", 9 AVDD (power) "Analog supply pin, 1.8 V", 11 LVDD (power) "Digital and I/O power supply, 1.8 V", 12 LGND (power) "Digital ground", 49 LVDD (power) "Digital and I/O power supply, 1.8 V", 50 LGND (power) "Digital ground", 52 AVDD (power) "Analog supply pin, 1.8 V", 55 AGND (power) "Analog ground", 58 AGND (power) "Analog ground", 61 AGND (power) "Analog ground", 66 AVDD (power) "Analog supply pin, 1.8 V", 71 AVDD (power) "Analog supply pin, 1.8 V", 74 AVDD (power) "Analog supply pin, 1.8 V", 80 AGND (power) "Analog ground", 81 EP (power)

## ADS5485
designator IC?
16-Bit, 200-MSPS Analog-to-Digital Converters
pins: 1 AVDD5 (power), 2 AVDD5 (power), 3 AGND (power), 4 REF (in), 5 NC, 6 NC, 7 AGND (power), 8 AVDD5 (power), 9 AVDD3 (power), 10 AGND (power), 11 INP (in), 12 INM (in), 13 AGND (power), 14 AVDD5 (power), 15 AVDD3 (power), 16 VCM (in), 17 AGND (power), 18 AVDD5 (power), 19 AVDD3 (power), 20 AGND (power), 21 CLKM (in), 22 CLKP (in), 23 AGND (power), 24 AVDD5 (power), 25 AVDD3 (power), 26 AGND (power), 27 AVDD5 (power), 28 AVDD3 (power), 29 AGND (power), 30 AVDD5 (power), 31 AVDD3 (power), 32 AGND (power), 33 LVDSB, 34 PDWNF (in), 35 PDWNS (in), 36 DITHER (in), 37 NC, 38 NC, 39 NC, 40 NC, 41 DGND (power), 42 DVDD3 (power), 43 D0_1_M (out), 44 D0_1_P (out), 45 D2_3_M (out), 46 D2_3_P (out), 47 D4_5_M (out), 48 D4_5_P (out), 49 D6_7_M (out), 50 D6_7_P (out), 51 DGND (power), 52 DVDD3 (power), 53 DRY_M (out), 54 DRY_P (out), 55 D8_9_M (out), 56 D8_9_P (out), 57 D10_11_M (out), 58 D10_11_P (out), 59 D12_13_M (out), 60 D12_13_P (in), 61 D14_15_M (out), 62 D14_15_P (out), 63 DVDD3 (power), 64 DGND (power), 65 PWPAD (power)

## ADS7229IPW
designator IC?
Low-Power, 12-Bit, 1MHz, Single, Unipolar Input, Analog-To-Digital Converters With Serial Interface
pins: 1 VA+ (power), 2 RESERVED (in), 3 IN+ (in), 4 IN- (in), 5 AGND (power), 6 REF- (in), 7 REF+ (in), 8 NC, 9 ~{CONVST} (in), 10 EOC/~{INT}/CDI (io), 11 FS/~{CS} (in), 12 SDI (in), 13 SDO (in), 14 BDGND (power), 15 SCLK (in), 16 VBD+ (power)

## ADS7807
designator IC?
Low-Power, 16-Bit, Sampling CMOS Analog-to-Digital Converter
pins: 1 R1IN (in), 2 AGND1 (power), 3 R2IN (in), 4 CAP (out), 5 REF (in), 6 AGND2 (power), 7 SB/~{BTC} (in), 8 EXT/~{INT} (in), 9 D7 (out), 10 D6 (out), 11 D5 (out), 12 D4 (out), 13 D3 (out), 14 DGND (power), 15 D2 (out), 16 D1 (out), 17 D0 (out), 18 DATACLK (io), 19 SDATA (out), 20 TAG (in), 21 BYTE (in), 22 R/~{C} (in), 23 ~{CS} (in), 24 ~{BUSY} (out), 25 PWRD (in), 26 REFD (in), 27 VANA (power), 28 VDIG (power)

## ADS7852Y
designator IC?
12-Bit, 8-Channel, Parallel Output ADC
pins: 1 AIN0 (in), 2 AIN1 (in), 3 AIN2 (in), 4 AIN3 (in), 5 AIN4 (in), 6 AIN5 (in), 7 AIN6 (in), 8 AIN7 (in), 9 AGND (power), 10 VREF, 11 DGND (power), 12 A2 (in), 13 A1 (in), 14 A0 (in), 15 DB11 (out), 16 DB10 (out), 17 DB9 (out), 18 DB8 (out), 19 DB7 (out), 20 DB6 (out), 21 DB5 (out), 22 DB4 (out), 23 DB3 (out), 24 DB2 (out), 25 DB1 (out), 26 DB0 (out), 27 ~{WR} (in), 28 ~{BUSY} (out), 29 CLK (in), 30 ~{RD} (in), 31 ~{CS} (in), 32 VSS (power)

## ADS7945
designator IC?
14-Bit, 2 MSPS, Dual-Channel, Differential/Single-Ended, Ultralow-Power Analog-to-Digital Converters
pins: 1 GND (power), 2 AVDD (power), 3 REF (in), 4 REFGND (in), 5 AIN0P (in), 6 AIN0N (in), 7 AIN1N (in), 8 AIN1P (in), 9 NC, 10 NC, 11 CH SEL (in), 12 PDEN (in), 13 ~{CS} (in), 14 SCLK (in), 15 SDO (out), 16 DVDD (power), 17 EP (power)

## ADS8325
designator IC?
16-Bit, High-Speed, 2.7V To 5.5V MicroPower Sampling, Analog-To-Digital Converter
pins: 1 REF (in), 2 +IN (in), 3 -IN (in), 4 GND (power), 5 ~{CS}/SHDN (in), 6 DOUT (out), 7 DCLOCK (in), 8 VDD (power)

## ADS8326
designator IC?
16-Bit, High-Speed, 2.7V To 5.5V MicroPower Sampling, Analog-To-Digital Converter
pins: 1 REF (in), 2 +IN (in), 3 -IN (in), 4 GND (power), 5 ~{CS}/SHDN (in), 6 DOUT (out), 7 DCLOCK (in), 8 VDD (power)

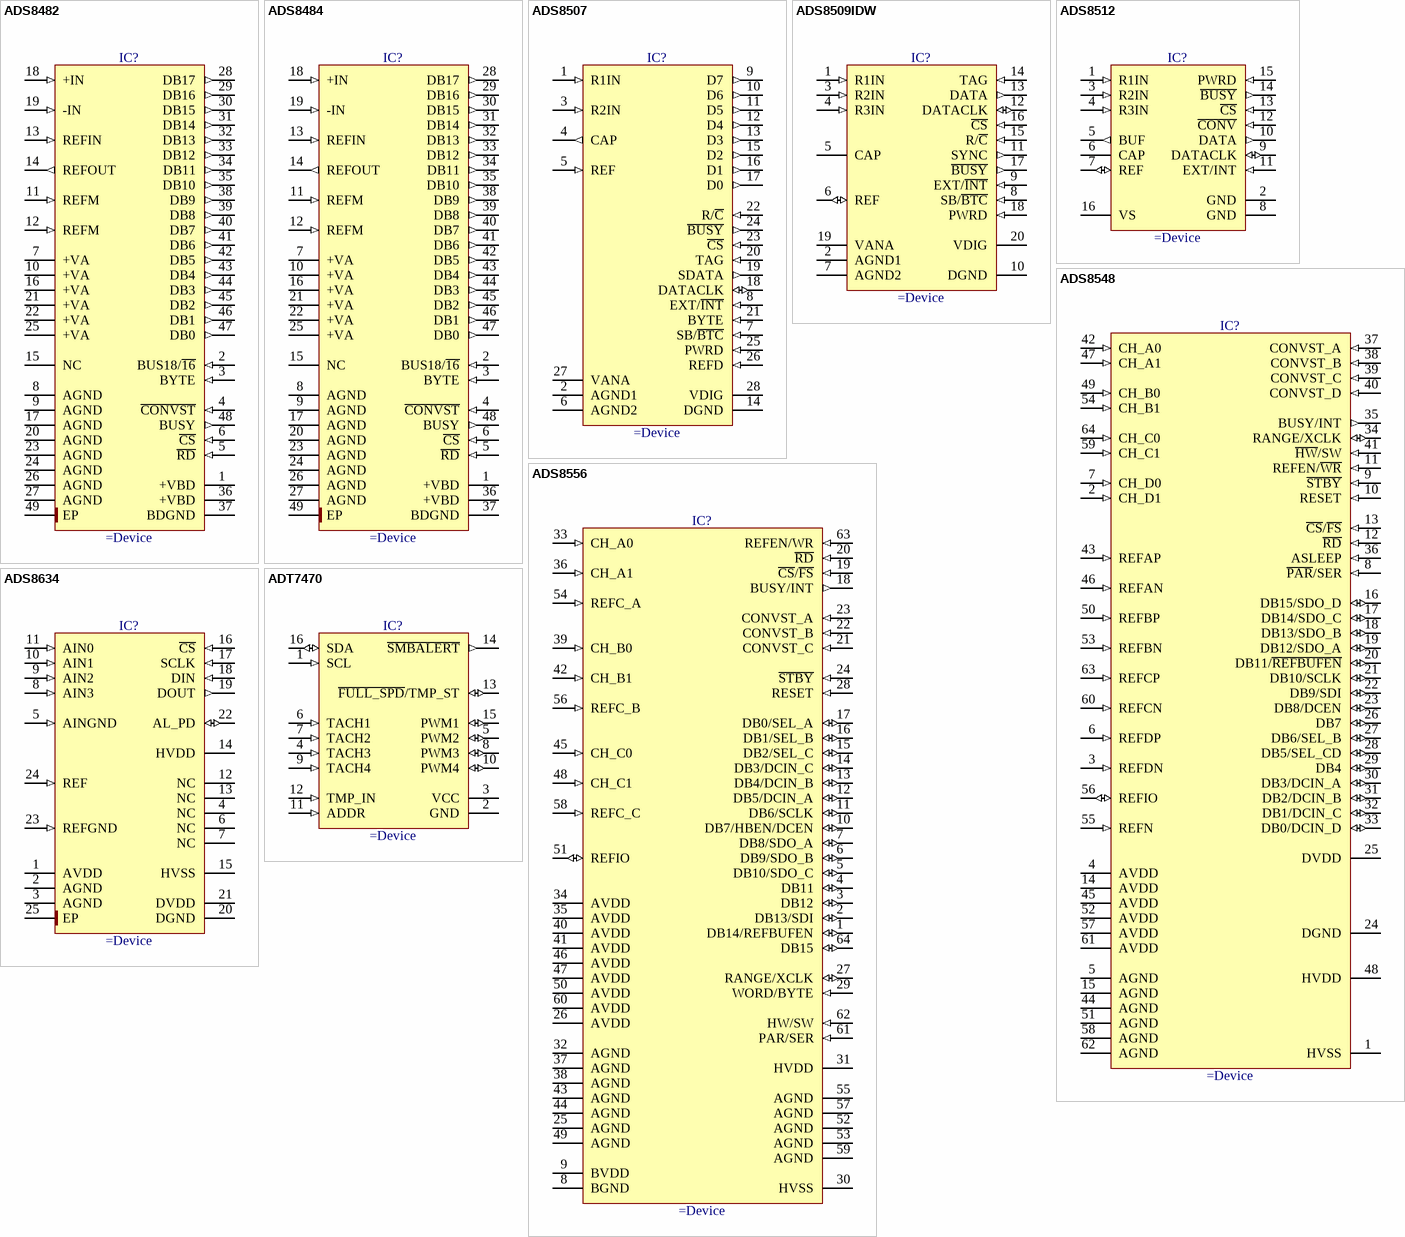
[diagram p21: symbols ADS8482 to ADT7470]

## ADS8482
designator IC?
18 Bit 1MSPS Parallel ADC W/Ref, Pseudo Bipolar, Fully Differential Input
pins: 1 +VBD (power), 2 BUS18/~{16} (in), 3 BYTE (in), 4 ~{CONVST} (in), 5 ~{RD} (in), 6 ~{CS} (in), 7 +VA (power), 8 AGND (power), 9 AGND (power), 10 +VA (power), 11 REFM (in), 12 REFM (in), 13 REFIN (in), 14 REFOUT (out), 15 NC, 16 +VA (power), 17 AGND (power), 18 +IN (in), 19 -IN (in), 20 AGND (power), 21 +VA (power), 22 +VA (power), 23 AGND (power), 24 AGND (power), 25 +VA (power), 26 AGND (power), 27 AGND (power), 28 DB17 (out), 29 DB16 (out), 30 DB15 (out), 31 DB14 (out), 32 DB13 (out), 33 DB12 (out), 34 DB11 (out), 35 DB10 (out), 36 +VBD (power), 37 BDGND (power), 38 DB9 (out), 39 DB8 (out), 40 DB7 (out), 41 DB6 (out), 42 DB5 (out), 43 DB4 (out), 44 DB3 (out), 45 DB2 (out), 46 DB1 (out), 47 DB0 (out), 48 BUSY (out), 49 EP (power)

## ADS8484
designator IC?
18-Bit, 1.25-MSPS, Differential Input, Micropower Sampling Analog-to-Digital Converter
pins: 1 +VBD (power), 2 BUS18/~{16} (in), 3 BYTE (in), 4 ~{CONVST} (in), 5 ~{RD} (in), 6 ~{CS} (in), 7 +VA (power), 8 AGND (power), 9 AGND (power), 10 +VA (power), 11 REFM (in), 12 REFM (in), 13 REFIN (in), 14 REFOUT (out), 15 NC, 16 +VA (power), 17 AGND (power), 18 +IN (in), 19 -IN (in), 20 AGND (power), 21 +VA (power), 22 +VA (power), 23 AGND (power), 24 AGND (power), 25 +VA (power), 26 AGND (power), 27 AGND (power), 28 DB17 (out), 29 DB16 (out), 30 DB15 (out), 31 DB14 (out), 32 DB13 (out), 33 DB12 (out), 34 DB11 (out), 35 DB10 (out), 36 +VBD (power), 37 BDGND (power), 38 DB9 (out), 39 DB8 (out), 40 DB7 (out), 41 DB6 (out), 42 DB5 (out), 43 DB4 (out), 44 DB3 (out), 45 DB2 (out), 46 DB1 (out), 47 DB0 (out), 48 BUSY (out), 49 EP (power)

## ADS8507
designator IC?
16-Bit 40KSPS Analog-to-Digital Converter w/Internal Reference and Parallel/Serial Interface
pins: 1 R1IN (in), 2 AGND1 (power), 3 R2IN (in), 4 CAP (out), 5 REF (in), 6 AGND2 (power), 7 SB/~{BTC} (in), 8 EXT/~{INT} (in), 9 D7 (out), 10 D6 (out), 11 D5 (out), 12 D4 (out), 13 D3 (out), 14 DGND (power), 15 D2 (out), 16 D1 (out), 17 D0 (out), 18 DATACLK (io), 19 SDATA (out), 20 TAG (in), 21 BYTE (in), 22 R/~{C} (in), 23 ~{CS} (in), 24 ~{BUSY} (out), 25 PWRD (in), 26 REFD (in), 27 VANA (power), 28 VDIG (power)

## ADS8509IDW
designator IC?
16-Bit 250kHz CMOS Analog-to-Digital Converter with Serial Interface 2.5V Internal Reference
pins: 1 R1IN (in), 2 AGND1 (power), 3 R2IN (in), 4 R3IN (in), 5 CAP, 6 REF (io), 7 AGND2 (power), 8 SB/~{BTC} (in), 9 EXT/~{INT} (in), 10 DGND (power), 11 SYNC (out), 12 DATACLK (io), 13 DATA (out), 14 TAG (in), 15 R/~{C} (in), 16 ~{CS} (in), 17 ~{BUSY} (out), 18 PWRD (in), 19 VANA (power), 20 VDIG (power)